# Altium schematic symbol library Xilinx Artix-7.SchLib: 78 symbols (part 14 of 23)
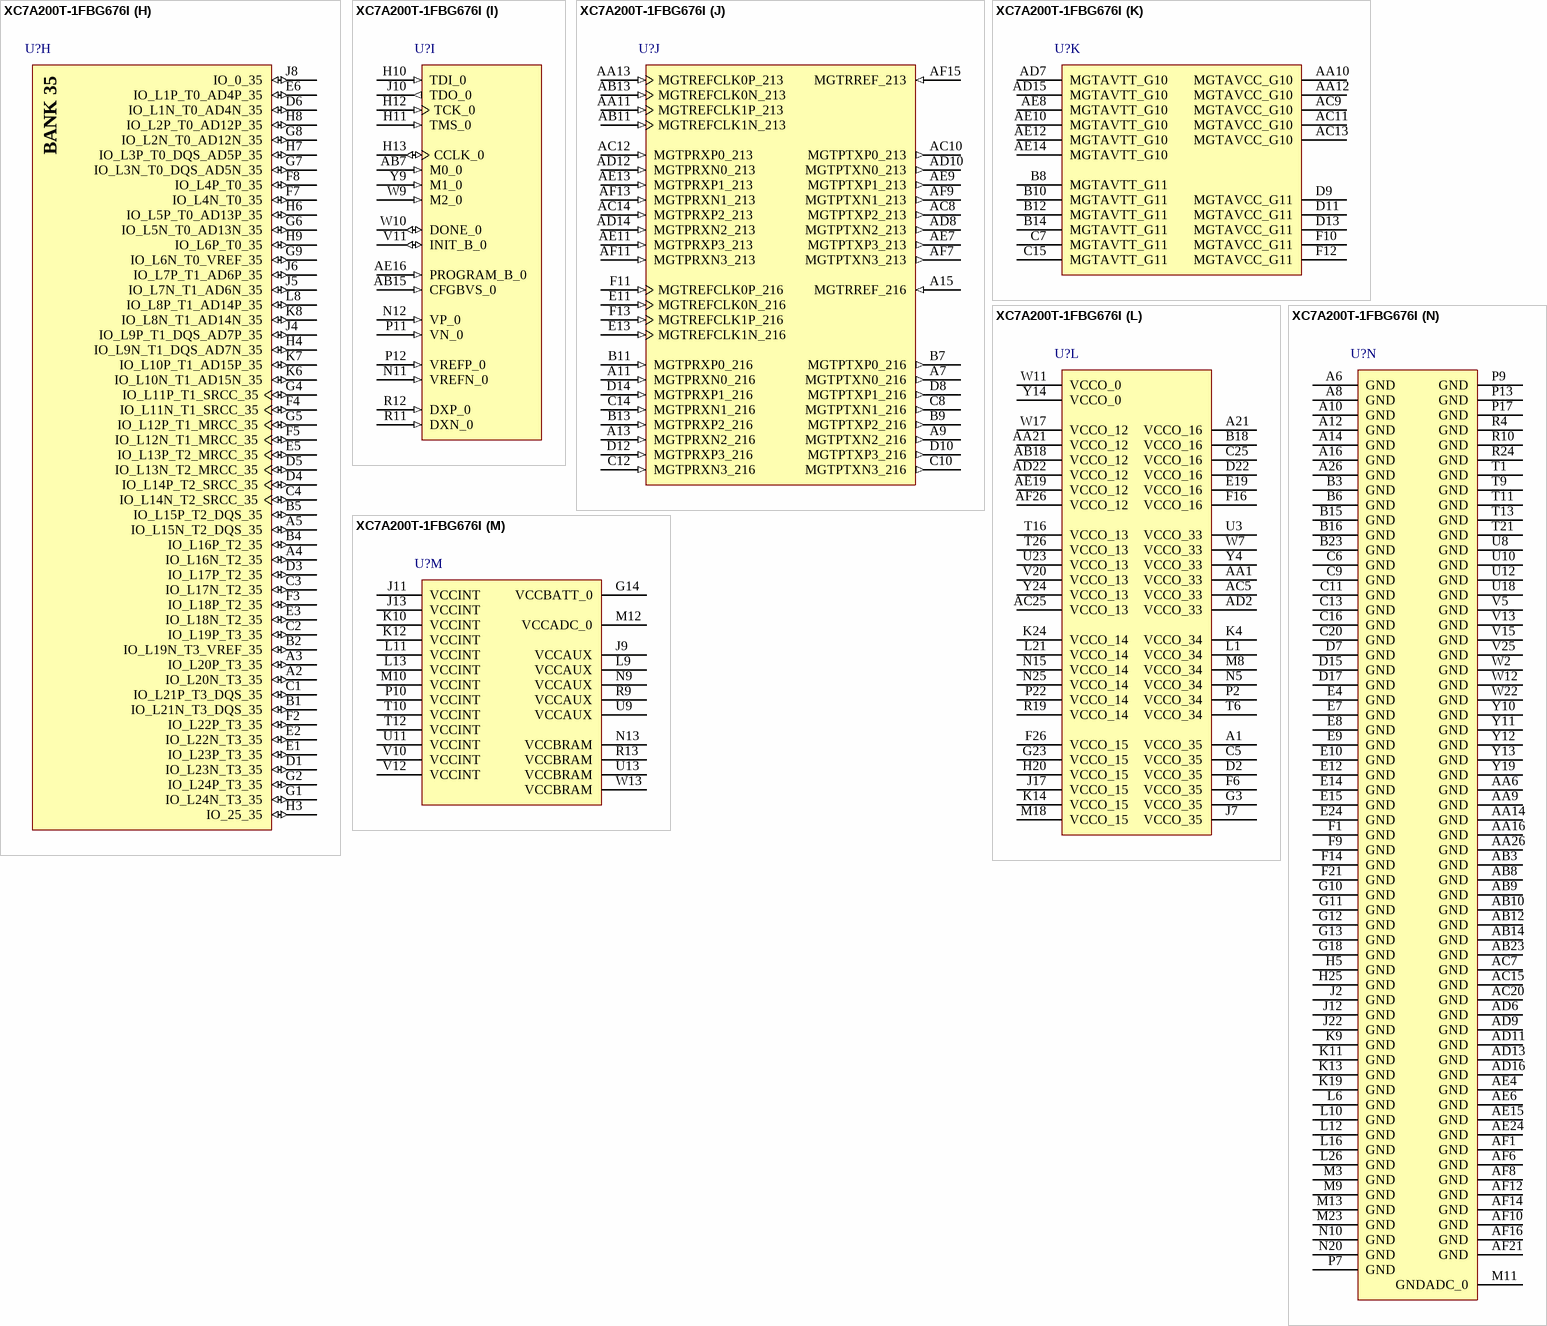
[diagram p140: symbol XC7A200T-1FBG676I]

## XC7A200T-1FBG676I
designator U?
Artix-7 FPGA, 400 User I/Os, 8 GTP, 676-Ball BGA, Speed Grade 1, Industrial Grade, Pb-Free; Generic Part Number: XC7A200T; Manufacturer: Xilinx; Block RAM Blocks (18Kb): 730; Block RAM Blocks (36Kb): 365; Block RAM Blocks (Max Kb): 13140; CLBs (Slices): 33650; Clock Mgmt Tiles (CMTs): 10; DSP48E1 Slices: 740; Logic Cells: 215360; Max User I/O: 500; Speed Grade: -1; NexusDeviceID: XC7A200T-1FBG676I; DatasheetVersion: v1.12; PackageVersion: Rev 1.8; PackageReference: FBG676; PackageDescription: Flip-Chip Lidless BGA, Body 27 x 27 mm, 1.0 mm Pitch; Supplier 1: Digi-Key; Supplier Part Number 1: XC7A200T-1FBG676I-ND; CLBs (Max Distributed RAM Kb): 2888; RoHS: Pb-Free; Mounting Technology: Surface Mount; Code_JEDEC: MS-034; PartNumber: XC7A200T-1FBG676I; ComponentLink1Description: Manufacturer URL; ComponentLink1URL: http://www.xilinx.com/; ComponentLink2Description: Datasheet; ComponentLink2URL: http://www.xilinx.com/support/documentation/data_sheets/ds180_7Series_Overview.pdf; ComponentLink3Description: Package Specification; ComponentLink3URL: http://www.xilinx.com/support/documentation/user_guides/ug475_7Series_Pkg_Pinout.pdf; ComponentLink4Description: DC and Switching Characteristics; ComponentLink4URL: http://www.xilinx.com/support/documentation/data_sheets/ds181_Artix_7_Data_Sheet.pdf; ComponentLink5Description: Package File; ComponentLink5URL: http://www.xilinx.com/support/packagefiles/a7packages/xc7a200tfbg676pkg.txt; ComponentLink6Description: Packaging and Pinout; ComponentLink6URL: http://www.xilinx.com/support/documentation/user_guides/ug475_7Series_Pkg_Pinout.pdf
footprint FBG676 (BGA, 676-Balls, Body 27x27mm, Pitch 1.0mm)
part A pins: AA15 IO_L23N_T3_12 (io), AA17 IO_L19P_T3_12 (io), AA18 IO_L17N_T2_12 (io), AA19 IO_L13P_T2_MRCC_12 (io), AA20 IO_L12P_T1_MRCC_12 (io), AB16 IO_L22P_T3_12 (io), AB17 IO_L19N_T3_VREF_12 (io), AB19 IO_L13N_T2_MRCC_12 (io), AB20 IO_L12N_T1_MRCC_12 (io), AB21 IO_L11P_T1_SRCC_12 (io), AB22 IO_0_12 (io), AC16 IO_L22N_T3_12 (io), AC17 IO_L20P_T3_12 (io), AC18 IO_L15P_T2_DQS_12 (io), AC19 IO_L14P_T2_SRCC_12 (io), AC21 IO_L11N_T1_SRCC_12 (io), AC22 IO_L2P_T0_12 (io), AC23 IO_L2N_T0_12 (io), AD17 IO_L20N_T3_12 (io), AD18 IO_L15N_T2_DQS_12 (io), AD19 IO_L14N_T2_SRCC_12 (io), AD20 IO_L10P_T1_12 (io), AD21 IO_L7P_T1_12 (io), AD23 IO_L6P_T0_12 (io), AD24 IO_L6N_T0_VREF_12 (io), AD25 IO_L4P_T0_12 (io), AD26 IO_L4N_T0_12 (io), AE17 IO_L18P_T2_12 (io), AE18 IO_L16P_T2_12 (io), AE20 IO_L10N_T1_12 (io), AE21 IO_L7N_T1_12 (io), AE22 IO_L9P_T1_DQS_12 (io), AE23 IO_L5P_T0_12 (io), AE25 IO_L1P_T0_12 (io), AE26 IO_L1N_T0_12 (io), AF17 IO_L18N_T2_12 (io), AF18 IO_L16N_T2_12 (io), AF19 IO_L8P_T1_12 (io), AF20 IO_L8N_T1_12 (io), AF22 IO_L9N_T1_DQS_12 (io), AF23 IO_L5N_T0_12 (io), AF24 IO_L3P_T0_DQS_12 (io), AF25 IO_L3N_T0_DQS_12 (io), W14 IO_L24P_T3_12 (io), W15 IO_L24N_T3_12 (io), W16 IO_25_12 (io), Y15 IO_L23P_T3_12 (io), Y16 IO_L21P_T3_DQS_12 (io), Y17 IO_L21N_T3_DQS_12 (io), Y18 IO_L17P_T2_12 (io)
part B pins: AA22 IO_L8P_T1_13 (io), AA23 IO_L8N_T1_13 (io), AA24 IO_L7P_T1_13 (io), AA25 IO_L5N_T0_13 (io), AB24 IO_L9P_T1_DQS_13 (io), AB25 IO_L7N_T1_13 (io), AB26 IO_L3P_T0_DQS_13 (io), AC24 IO_L9N_T1_DQS_13 (io), AC26 IO_L3N_T0_DQS_13 (io), T14 IO_L20P_T3_13 (io), T15 IO_L20N_T3_13 (io), T17 IO_L21P_T3_DQS_13 (io), T18 IO_L21N_T3_DQS_13 (io), T19 IO_L17P_T2_13 (io), T20 IO_L15P_T2_DQS_13 (io), U14 IO_L23P_T3_13 (io), U15 IO_L22P_T3_13 (io), U16 IO_L22N_T3_13 (io), U17 IO_25_13 (io), U19 IO_L17N_T2_13 (io), U20 IO_L15N_T2_DQS_13 (io), U21 IO_L13P_T2_MRCC_13 (io), U22 IO_L12P_T1_MRCC_13 (io), U24 IO_0_13 (io), U25 IO_L1P_T0_13 (io), U26 IO_L1N_T0_13 (io), V14 IO_L23N_T3_13 (io), V16 IO_L24P_T3_13 (io), V17 IO_L24N_T3_13 (io), V18 IO_L19P_T3_13 (io), V19 IO_L18P_T2_13 (io), V21 IO_L13N_T2_MRCC_13 (io), V22 IO_L12N_T1_MRCC_13 (io), V23 IO_L10P_T1_13 (io), V24 IO_L6P_T0_13 (io), V26 IO_L2P_T0_13 (io), W18 IO_L19N_T3_VREF_13 (io), W19 IO_L18N_T2_13 (io), W20 IO_L16P_T2_13 (io), W21 IO_L14P_T2_SRCC_13 (io), W23 IO_L10N_T1_13 (io), W24 IO_L6N_T0_VREF_13 (io), W25 IO_L4P_T0_13 (io), W26 IO_L2N_T0_13 (io), Y20 IO_L16N_T2_13 (io), Y21 IO_L14N_T2_SRCC_13 (io), Y22 IO_L11P_T1_SRCC_13 (io), Y23 IO_L11N_T1_SRCC_13 (io), Y25 IO_L5P_T0_13 (io), Y26 IO_L4N_T0_13 (io)
part C pins: K25 IO_L7P_T1_D09_14 (io), K26 IO_L7N_T1_D10_14 (io), L20 IO_L8N_T1_D12_14 (io), L22 IO_L11P_T1_SRCC_14 (io), L23 IO_L11N_T1_SRCC_14 (io), L24 IO_L9P_T1_DQS_14 (io), L25 IO_L9N_T1_DQS_D13_14 (io), M19 IO_0_14 (io), M20 IO_L8P_T1_D11_14 (io), M21 IO_L12P_T1_MRCC_14 (io), M22 IO_L12N_T1_MRCC_14 (io), M24 IO_L10P_T1_D14_14 (io), M25 IO_L10N_T1_D15_14 (io), M26 IO_L20N_T3_A07_D23_14 (io), N14 IO_L2N_T0_D03_14 (io), N16 IO_L4P_T0_D04_14 (io), N17 IO_L4N_T0_D05_14 (io), N18 IO_L6N_T0_D08_VREF_14 (io), N19 IO_L16N_T2_A15_D31_14 (io), N21 IO_L13P_T2_MRCC_14 (io), N22 IO_L13N_T2_MRCC_14 (io), N23 IO_L15P_T2_DQS_RDWR_B_14 (io), N24 IO_L15N_T2_DQS_DOUT_CSO_B_14 (io), N26 IO_L20P_T3_A08_D24_14 (io), P14 IO_L2P_T0_D02_14 (io), P15 IO_L3P_T0_DQS_PUDC_B_14 (io), P16 IO_L3N_T0_DQS_EMCCLK_14 (io), P18 IO_L6P_T0_FCS_B_14 (io), P19 IO_L16P_T2_CSI_B_14 (io), P20 IO_L14P_T2_SRCC_14 (io), P21 IO_L14N_T2_SRCC_14 (io), P23 IO_L17P_T2_A14_D30_14 (io), P24 IO_L17N_T2_A13_D29_14 (io), P25 IO_L19N_T3_A09_D25_VREF_14 (io), P26 IO_L22N_T3_A04_D20_14 (io), R14 IO_L1P_T0_D00_MOSI_14 (io), R15 IO_L1N_T0_D01_DIN_14 (io), R16 IO_L5P_T0_D06_14 (io), R17 IO_L5N_T0_D07_14 (io), R18 IO_25_14 (io), R20 IO_L18P_T2_A12_D28_14 (io), R21 IO_L18N_T2_A11_D27_14 (io), R22 IO_L23N_T3_A02_D18_14 (io), R23 IO_L24N_T3_A00_D16_14 (io), R25 IO_L19P_T3_A10_D26_14 (io), R26 IO_L22P_T3_A05_D21_14 (io), T22 IO_L23P_T3_A03_D19_14 (io), T23 IO_L24P_T3_A01_D17_14 (io), T24 IO_L21P_T3_DQS_14 (io), T25 IO_L21N_T3_DQS_A06_D22_14 (io)
part D pins: D25 IO_L20N_T3_A19_15 (io), D26 IO_L21N_T3_DQS_A18_15 (io), E23 IO_L17N_T2_A25_15 (io), E25 IO_L20P_T3_A20_15 (io), E26 IO_L21P_T3_DQS_15 (io), F22 IO_L15N_T2_DQS_ADV_B_15 (io), F23 IO_L17P_T2_A26_15 (io), F24 IO_L19N_T3_A21_VREF_15 (io), F25 IO_L23N_T3_FWE_B_15 (io), G20 IO_L11P_T1_SRCC_15 (io), G21 IO_L11N_T1_SRCC_15 (io), G22 IO_L15P_T2_DQS_15 (io), G24 IO_L19P_T3_A22_15 (io), G25 IO_L23P_T3_FOE_B_15 (io), G26 IO_L22N_T3_A16_15 (io), H18 IO_L10N_T1_AD11N_15 (io), H19 IO_L7N_T1_AD2N_15 (io), H21 IO_L13P_T2_MRCC_15 (io), H22 IO_L13N_T2_MRCC_15 (io), H23 IO_L14N_T2_SRCC_15 (io), H24 IO_L16N_T2_A27_15 (io), H26 IO_L22P_T3_A17_15 (io), J14 IO_L2P_T0_AD8P_15 (io), J15 IO_L2N_T0_AD8N_15 (io), J16 IO_L1N_T0_AD0N_15 (io), J18 IO_L10P_T1_AD11P_15 (io), J19 IO_L7P_T1_AD2P_15 (io), J20 IO_L9N_T1_DQS_AD3N_15 (io), J21 IO_L12N_T1_MRCC_15 (io), J23 IO_L14P_T2_SRCC_15 (io), J24 IO_L16P_T2_A28_15 (io), J25 IO_L24P_T3_RS1_15 (io), J26 IO_L24N_T3_RS0_15 (io), K15 IO_L1P_T0_AD0P_15 (io), K16 IO_L3P_T0_DQS_AD1P_15 (io), K17 IO_L3N_T0_DQS_AD1N_15 (io), K18 IO_0_15 (io), K20 IO_L9P_T1_DQS_AD3P_15 (io), K21 IO_L12P_T1_MRCC_15 (io), K22 IO_L18P_T2_A24_15 (io), K23 IO_L18N_T2_A23_15 (io), L14 IO_L4N_T0_15 (io), L15 IO_L5N_T0_AD9N_15 (io), L17 IO_L8P_T1_AD10P_15 (io), L18 IO_L8N_T1_AD10N_15 (io), L19 IO_25_15 (io), M14 IO_L4P_T0_15 (io), M15 IO_L5P_T0_AD9P_15 (io), M16 IO_L6P_T0_15 (io), M17 IO_L6N_T0_VREF_15 (io)
part E pins: A17 IO_L9P_T1_DQS_16 (io), A18 IO_L9N_T1_DQS_16 (io), A19 IO_L10N_T1_16 (io), A20 IO_L15N_T2_DQS_16 (io), A22 IO_L17N_T2_16 (io), A23 IO_L21P_T3_DQS_16 (io), A24 IO_L21N_T3_DQS_16 (io), A25 IO_L20N_T3_16 (io), B17 IO_L7N_T1_16 (io), B19 IO_L10P_T1_16 (io), B20 IO_L15P_T2_DQS_16 (io), B21 IO_L16N_T2_16 (io), B22 IO_L17P_T2_16 (io), B24 IO_L23N_T3_16 (io), B25 IO_L20P_T3_16 (io), B26 IO_L22N_T3_16 (io), C17 IO_L7P_T1_16 (io), C18 IO_L12N_T1_MRCC_16 (io), C19 IO_L13N_T2_MRCC_16 (io), C21 IO_L16P_T2_16 (io), C22 IO_L19P_T3_16 (io), C23 IO_L19N_T3_VREF_16 (io), C24 IO_L23P_T3_16 (io), C26 IO_L22P_T3_16 (io), D16 IO_L8N_T1_16 (io), D18 IO_L12P_T1_MRCC_16 (io), D19 IO_L13P_T2_MRCC_16 (io), D20 IO_L14N_T2_SRCC_16 (io), D21 IO_L18N_T2_16 (io), D23 IO_L24P_T3_16 (io), D24 IO_L24N_T3_16 (io), E16 IO_L8P_T1_16 (io), E17 IO_L11P_T1_SRCC_16 (io), E18 IO_L11N_T1_SRCC_16 (io), E20 IO_L14P_T2_SRCC_16 (io), E21 IO_L18P_T2_16 (io), E22 IO_25_16 (io), F15 IO_L4N_T0_16 (io), F17 IO_L2N_T0_16 (io), F18 IO_L3P_T0_DQS_16 (io), F19 IO_L3N_T0_DQS_16 (io), F20 IO_L5N_T0_16 (io), G15 IO_L4P_T0_16 (io), G16 IO_L6N_T0_VREF_16 (io), G17 IO_L2P_T0_16 (io), G19 IO_L5P_T0_16 (io), H14 IO_L1P_T0_16 (io), H15 IO_L1N_T0_16 (io), H16 IO_L6P_T0_16 (io), H17 IO_0_16 (io)
part F pins: AA2 IO_L12N_T1_MRCC_33 (io), AA3 IO_L12P_T1_MRCC_33 (io), AA4 IO_L13P_T2_MRCC_33 (io), AA5 IO_L22P_T3_33 (io), AA7 IO_L19N_T3_VREF_33 (io), AA8 IO_L23N_T3_33 (io), AB1 IO_L7P_T1_33 (io), AB2 IO_L11P_T1_SRCC_33 (io), AB4 IO_L13N_T2_MRCC_33 (io), AB5 IO_L22N_T3_33 (io), AB6 IO_L24P_T3_33 (io), AC1 IO_L7N_T1_33 (io), AC2 IO_L11N_T1_SRCC_33 (io), AC3 IO_L14P_T2_SRCC_33 (io), AC4 IO_L18P_T2_33 (io), AC6 IO_L24N_T3_33 (io), AD1 IO_L9P_T1_DQS_33 (io), AD3 IO_L14N_T2_SRCC_33 (io), AD4 IO_L18N_T2_33 (io), AD5 IO_L15P_T2_DQS_33 (io), AE1 IO_L9N_T1_DQS_33 (io), AE2 IO_L10P_T1_33 (io), AE3 IO_L16P_T2_33 (io), AE5 IO_L15N_T2_DQS_33 (io), AF2 IO_L10N_T1_33 (io), AF3 IO_L16N_T2_33 (io), AF4 IO_L17N_T2_33 (io), AF5 IO_L17P_T2_33 (io), U7 IO_L6P_T0_33 (io), V1 IO_L1P_T0_33 (io), V2 IO_L3N_T0_DQS_33 (io), V3 IO_L3P_T0_DQS_33 (io), V4 IO_0_33 (io), V6 IO_L4P_T0_33 (io), V7 IO_L6N_T0_VREF_33 (io), V8 IO_L21P_T3_DQS_33 (io), V9 IO_25_33 (io), W1 IO_L1N_T0_33 (io), W3 IO_L5P_T0_33 (io), W4 IO_L2N_T0_33 (io), W5 IO_L2P_T0_33 (io), W6 IO_L4N_T0_33 (io), W8 IO_L21N_T3_DQS_33 (io), Y1 IO_L8N_T1_33 (io), Y2 IO_L8P_T1_33 (io), Y3 IO_L5N_T0_33 (io), Y5 IO_L20N_T3_33 (io), Y6 IO_L20P_T3_33 (io), Y7 IO_L19P_T3_33 (io), Y8 IO_L23P_T3_33 (io)
part G pins: H1 IO_L10N_T1_34 (io), H2 IO_L10P_T1_34 (io), J1 IO_L7N_T1_34 (io), J3 IO_L1N_T0_34 (io), K1 IO_L7P_T1_34 (io), K2 IO_L8N_T1_34 (io), K3 IO_L1P_T0_34 (io), K5 IO_L4N_T0_34 (io), L2 IO_L11N_T1_SRCC_34 (io), L3 IO_L8P_T1_34 (io), L4 IO_L3N_T0_DQS_34 (io), L5 IO_L4P_T0_34 (io), L7 IO_L2N_T0_34 (io), M1 IO_L9N_T1_DQS_34 (io), M2 IO_L11P_T1_SRCC_34 (io), M4 IO_L3P_T0_DQS_34 (io), M5 IO_L6N_T0_VREF_34 (io), M6 IO_L6P_T0_34 (io), M7 IO_L2P_T0_34 (io), N1 IO_L9P_T1_DQS_34 (io), N2 IO_L12N_T1_MRCC_34 (io), N3 IO_L12P_T1_MRCC_34 (io), N4 IO_L14N_T2_SRCC_34 (io), N6 IO_L5N_T0_34 (io), N7 IO_L5P_T0_34 (io), N8 IO_0_34 (io), P1 IO_L15N_T2_DQS_34 (io), P3 IO_L13N_T2_MRCC_34 (io), P4 IO_L14P_T2_SRCC_34 (io), P5 IO_L19N_T3_VREF_34 (io), P6 IO_L19P_T3_34 (io), P8 IO_L22N_T3_34 (io), R1 IO_L15P_T2_DQS_34 (io), R2 IO_L17N_T2_34 (io), R3 IO_L13P_T2_MRCC_34 (io), R5 IO_L20N_T3_34 (io), R6 IO_L23N_T3_34 (io), R7 IO_L23P_T3_34 (io), R8 IO_L22P_T3_34 (io), T2 IO_L17P_T2_34 (io), T3 IO_L16N_T2_34 (io), T4 IO_L16P_T2_34 (io), T5 IO_L20P_T3_34 (io), T7 IO_L24N_T3_34 (io), T8 IO_L24P_T3_34 (io), U1 IO_L18N_T2_34 (io), U2 IO_L18P_T2_34 (io), U4 IO_25_34 (io), U5 IO_L21N_T3_DQS_34 (io), U6 IO_L21P_T3_DQS_34 (io)
part H pins: A2 IO_L20N_T3_35 (io), A3 IO_L20P_T3_35 (io), A4 IO_L16N_T2_35 (io), A5 IO_L15N_T2_DQS_35 (io), B1 IO_L21N_T3_DQS_35 (io), B2 IO_L19N_T3_VREF_35 (io), B4 IO_L16P_T2_35 (io), B5 IO_L15P_T2_DQS_35 (io), C1 IO_L21P_T3_DQS_35 (io), C2 IO_L19P_T3_35 (io), C3 IO_L17N_T2_35 (io), C4 IO_L14N_T2_SRCC_35 (io), D1 IO_L23N_T3_35 (io), D3 IO_L17P_T2_35 (io), D4 IO_L14P_T2_SRCC_35 (io), D5 IO_L13N_T2_MRCC_35 (io), D6 IO_L1N_T0_AD4N_35 (io), E1 IO_L23P_T3_35 (io), E2 IO_L22N_T3_35 (io), E3 IO_L18N_T2_35 (io), E5 IO_L13P_T2_MRCC_35 (io), E6 IO_L1P_T0_AD4P_35 (io), F2 IO_L22P_T3_35 (io), F3 IO_L18P_T2_35 (io), F4 IO_L11N_T1_SRCC_35 (io), F5 IO_L12N_T1_MRCC_35 (io), F7 IO_L4N_T0_35 (io), F8 IO_L4P_T0_35 (io), G1 IO_L24N_T3_35 (io), G2 IO_L24P_T3_35 (io), G4 IO_L11P_T1_SRCC_35 (io), G5 IO_L12P_T1_MRCC_35 (io), G6 IO_L5N_T0_AD13N_35 (io), G7 IO_L3N_T0_DQS_AD5N_35 (io), G8 IO_L2N_T0_AD12N_35 (io), G9 IO_L6N_T0_VREF_35 (io), H3 IO_25_35 (io), H4 IO_L9N_T1_DQS_AD7N_35 (io), H6 IO_L5P_T0_AD13P_35 (io), H7 IO_L3P_T0_DQS_AD5P_35 (io), H8 IO_L2P_T0_AD12P_35 (io), H9 IO_L6P_T0_35 (io), J4 IO_L9P_T1_DQS_AD7P_35 (io), J5 IO_L7N_T1_AD6N_35 (io), J6 IO_L7P_T1_AD6P_35 (io), J8 IO_0_35 (io), K6 IO_L10N_T1_AD15N_35 (io), K7 IO_L10P_T1_AD15P_35 (io), K8 IO_L8N_T1_AD14N_35 (io), L8 IO_L8P_T1_AD14P_35 (io)
part I pins: AB7 M0_0 (in), AB15 CFGBVS_0 (in), AE16 PROGRAM_B_0 (in), H10 TDI_0 (in), H11 TMS_0 (in), H12 TCK_0 (in), H13 CCLK_0 (io), J10 TDO_0 (out), N11 VREFN_0 (in), N12 VP_0 (in), P11 VN_0 (in), P12 VREFP_0 (in), R11 DXN_0 (in), R12 DXP_0 (in), V11 INIT_B_0 (io), W9 M2_0 (in), W10 DONE_0 (io), Y9 M1_0 (in)
part J pins: A7 MGTPTXN0_216 (out), A9 MGTPTXN2_216 (out), A11 MGTPRXN0_216 (in), A13 MGTPRXN2_216 (in), A15 MGTRREF_216 (in), AA11 MGTREFCLK1P_213 (in), AA13 MGTREFCLK0P_213 (in), AB11 MGTREFCLK1N_213 (in), AB13 MGTREFCLK0N_213 (in), AC8 MGTPTXP2_213 (out), AC10 MGTPTXP0_213 (out), AC12 MGTPRXP0_213 (in), AC14 MGTPRXP2_213 (in), AD8 MGTPTXN2_213 (out), AD10 MGTPTXN0_213 (out), AD12 MGTPRXN0_213 (in), AD14 MGTPRXN2_213 (in), AE7 MGTPTXP3_213 (out), AE9 MGTPTXP1_213 (out), AE11 MGTPRXP3_213 (in), AE13 MGTPRXP1_213 (in), AF7 MGTPTXN3_213 (out), AF9 MGTPTXN1_213 (out), AF11 MGTPRXN3_213 (in), AF13 MGTPRXN1_213 (in), AF15 MGTRREF_213 (in), B7 MGTPTXP0_216 (out), B9 MGTPTXP2_216 (out), B11 MGTPRXP0_216 (in), B13 MGTPRXP2_216 (in), C8 MGTPTXN1_216 (out), C10 MGTPTXN3_216 (out), C12 MGTPRXN3_216 (in), C14 MGTPRXN1_216 (in), D8 MGTPTXP1_216 (out), D10 MGTPTXP3_216 (out), D12 MGTPRXP3_216 (in), D14 MGTPRXP1_216 (in), E11 MGTREFCLK0N_216 (in), E13 MGTREFCLK1N_216 (in), F11 MGTREFCLK0P_216 (in), F13 MGTREFCLK1P_216 (in)
part K pins: AA10 MGTAVCC_G10 (power), AA12 MGTAVCC_G10 (power), AC9 MGTAVCC_G10 (power), AC11 MGTAVCC_G10 (power), AC13 MGTAVCC_G10 (power), AD7 MGTAVTT_G10 (power), AD15 MGTAVTT_G10 (power), AE8 MGTAVTT_G10 (power), AE10 MGTAVTT_G10 (power), AE12 MGTAVTT_G10 (power), AE14 MGTAVTT_G10 (power), B8 MGTAVTT_G11 (power), B10 MGTAVTT_G11 (power), B12 MGTAVTT_G11 (power), B14 MGTAVTT_G11 (power), C7 MGTAVTT_G11 (power), C15 MGTAVTT_G11 (power), D9 MGTAVCC_G11 (power), D11 MGTAVCC_G11 (power), D13 MGTAVCC_G11 (power), F10 MGTAVCC_G11 (power), F12 MGTAVCC_G11 (power)
part L pins: A1 VCCO_35 (power), A21 VCCO_16 (power), AA1 VCCO_33 (power), AA21 VCCO_12 (power), AB18 VCCO_12 (power), AC5 VCCO_33 (power), AC25 VCCO_13 (power), AD2 VCCO_33 (power), AD22 VCCO_12 (power), AE19 VCCO_12 (power), AF26 VCCO_12 (power), B18 VCCO_16 (power), C5 VCCO_35 (power), C25 VCCO_16 (power), D2 VCCO_35 (power), D22 VCCO_16 (power), E19 VCCO_16 (power), F6 VCCO_35 (power), F16 VCCO_16 (power), F26 VCCO_15 (power), G3 VCCO_35 (power), G23 VCCO_15 (power), H20 VCCO_15 (power), J7 VCCO_35 (power), J17 VCCO_15 (power), K4 VCCO_34 (power), K14 VCCO_15 (power), K24 VCCO_14 (power), L1 VCCO_34 (power), L21 VCCO_14 (power), M8 VCCO_34 (power), M18 VCCO_15 (power), N5 VCCO_34 (power), N15 VCCO_14 (power), N25 VCCO_14 (power), P2 VCCO_34 (power), P22 VCCO_14 (power), R19 VCCO_14 (power), T6 VCCO_34 (power), T16 VCCO_13 (power), T26 VCCO_13 (power), U3 VCCO_33 (power), U23 VCCO_13 (power), V20 VCCO_13 (power), W7 VCCO_33 (power), W11 VCCO_0 (power), W17 VCCO_12 (power), Y4 VCCO_33 (power), Y14 VCCO_0 (power), Y24 VCCO_13 (power)
part M pins: G14 VCCBATT_0 (power), J9 VCCAUX (power), J11 VCCINT (power), J13 VCCINT (power), K10 VCCINT (power), K12 VCCINT (power), L9 VCCAUX (power), L11 VCCINT (power), L13 VCCINT (power), M10 VCCINT (power), M12 VCCADC_0 (power), N9 VCCAUX (power), N13 VCCBRAM (power), P10 VCCINT (power), R9 VCCAUX (power), R13 VCCBRAM (power), T10 VCCINT (power), T12 VCCINT (power), U9 VCCAUX (power), U11 VCCINT (power), U13 VCCBRAM (power), V10 VCCINT (power), V12 VCCINT (power), W13 VCCBRAM (power)
part N pins: A6 GND (power), A8 GND (power), A10 GND (power), A12 GND (power), A14 GND (power), A16 GND (power), A26 GND (power), AA6 GND (power), AA9 GND (power), AA14 GND (power), AA16 GND (power), AA26 GND (power), AB3 GND (power), AB8 GND (power), AB9 GND (power), AB10 GND (power), AB12 GND (power), AB14 GND (power), AB23 GND (power), AC7 GND (power), AC15 GND (power), AC20 GND (power), AD6 GND (power), AD9 GND (power), AD11 GND (power), AD13 GND (power), AD16 GND (power), AE4 GND (power), AE6 GND (power), AE15 GND (power), AE24 GND (power), AF1 GND (power), AF6 GND (power), AF8 GND (power), AF10 GND (power), AF12 GND (power), AF14 GND (power), AF16 GND (power), AF21 GND (power), B3 GND (power), B6 GND (power), B15 GND (power), B16 GND (power), B23 GND (power), C6 GND (power), C9 GND (power), C11 GND (power), C13 GND (power), C16 GND (power), C20 GND (power), D7 GND (power), D15 GND (power), D17 GND (power), E4 GND (power), E7 GND (power), E8 GND (power), E9 GND (power), E10 GND (power), E12 GND (power), E14 GND (power), E15 GND (power), E24 GND (power), F1 GND (power), F9 GND (power), F14 GND (power), F21 GND (power), G10 GND (power), G11 GND (power), G12 GND (power), G13 GND (power), G18 GND (power), H5 GND (power), H25 GND (power), J2 GND (power), J12 GND (power), J22 GND (power), K9 GND (power), K11 GND (power), K13 GND (power), K19 GND (power), L6 GND (power), L10 GND (power), L12 GND (power), L16 GND (power), L26 GND (power), M3 GND (power), M9 GND (power), M11 GNDADC_0 (power), M13 GND (power), M23 GND (power), N10 GND (power), N20 GND (power), P7 GND (power), P9 GND (power), P13 GND (power), P17 GND (power), R4 GND (power), R10 GND (power), R24 GND (power), T1 GND (power), T9 GND (power), T11 GND (power), T13 GND (power), T21 GND (power), U8 GND (power), U10 GND (power), U12 GND (power), U18 GND (power), V5 GND (power), V13 GND (power), V15 GND (power), V25 GND (power), W2 GND (power), W12 GND (power), W22 GND (power), Y10 GND (power), Y11 GND (power), Y12 GND (power), Y13 GND (power), Y19 GND (power)
part A text: BANK 12
part B text: BANK 13
part C text: BANK 14
part D text: BANK 15
part E text: BANK 16
part F text: BANK 33
part G text: BANK 34
part H text: BANK 35

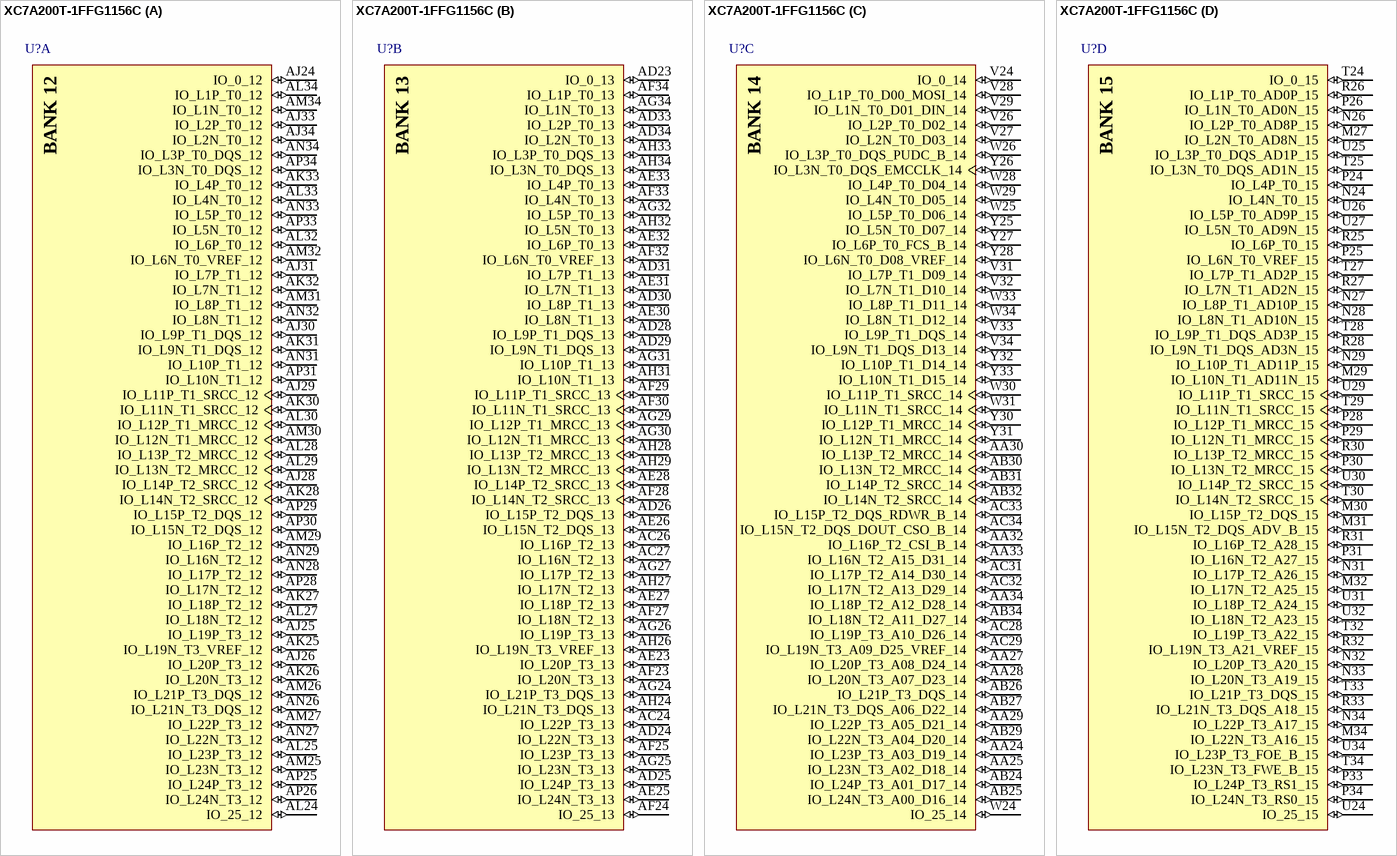
[diagram p75: symbol XC7A200T-1FFG1156C]

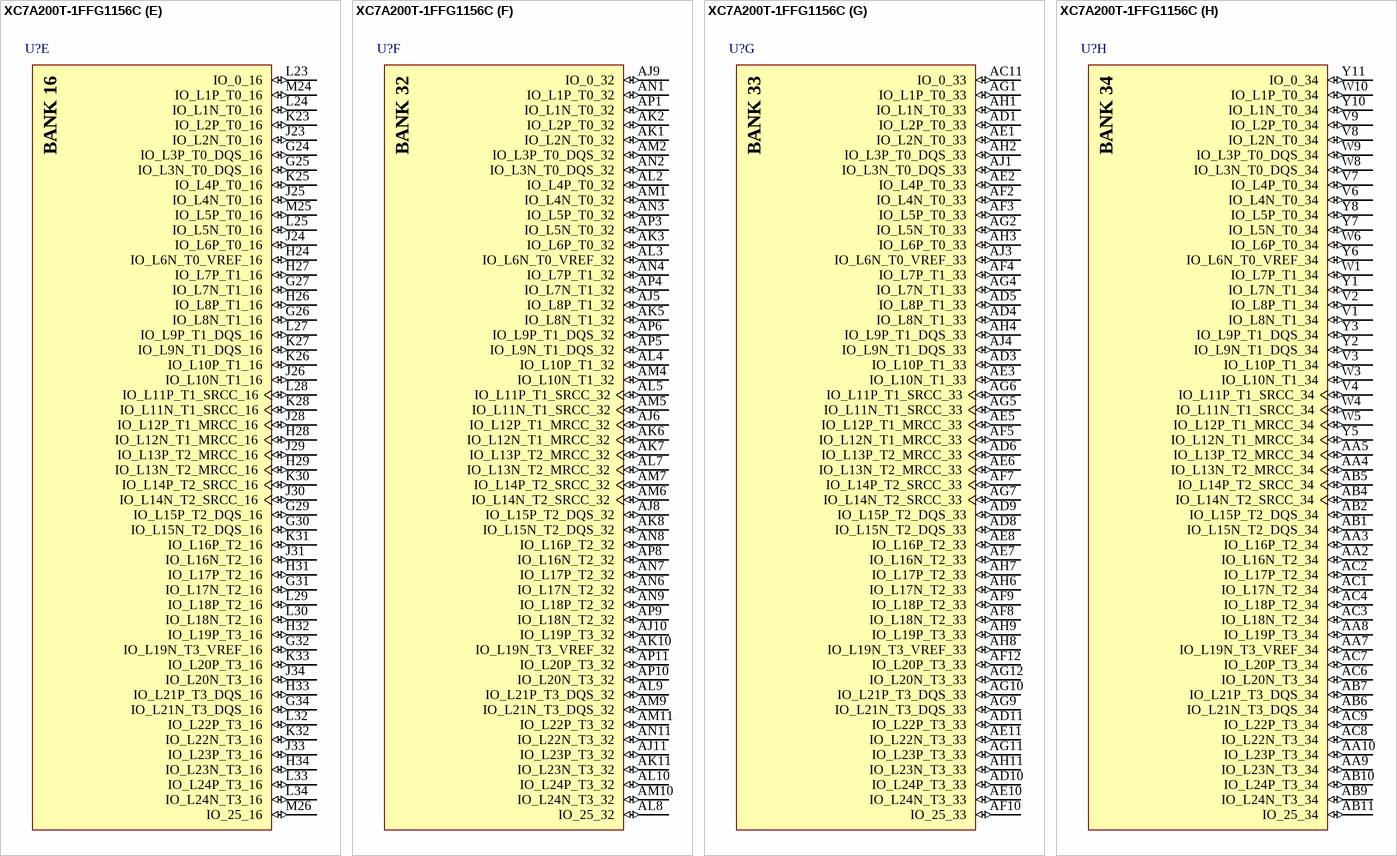
[diagram p76: symbol XC7A200T-1FFG1156C]

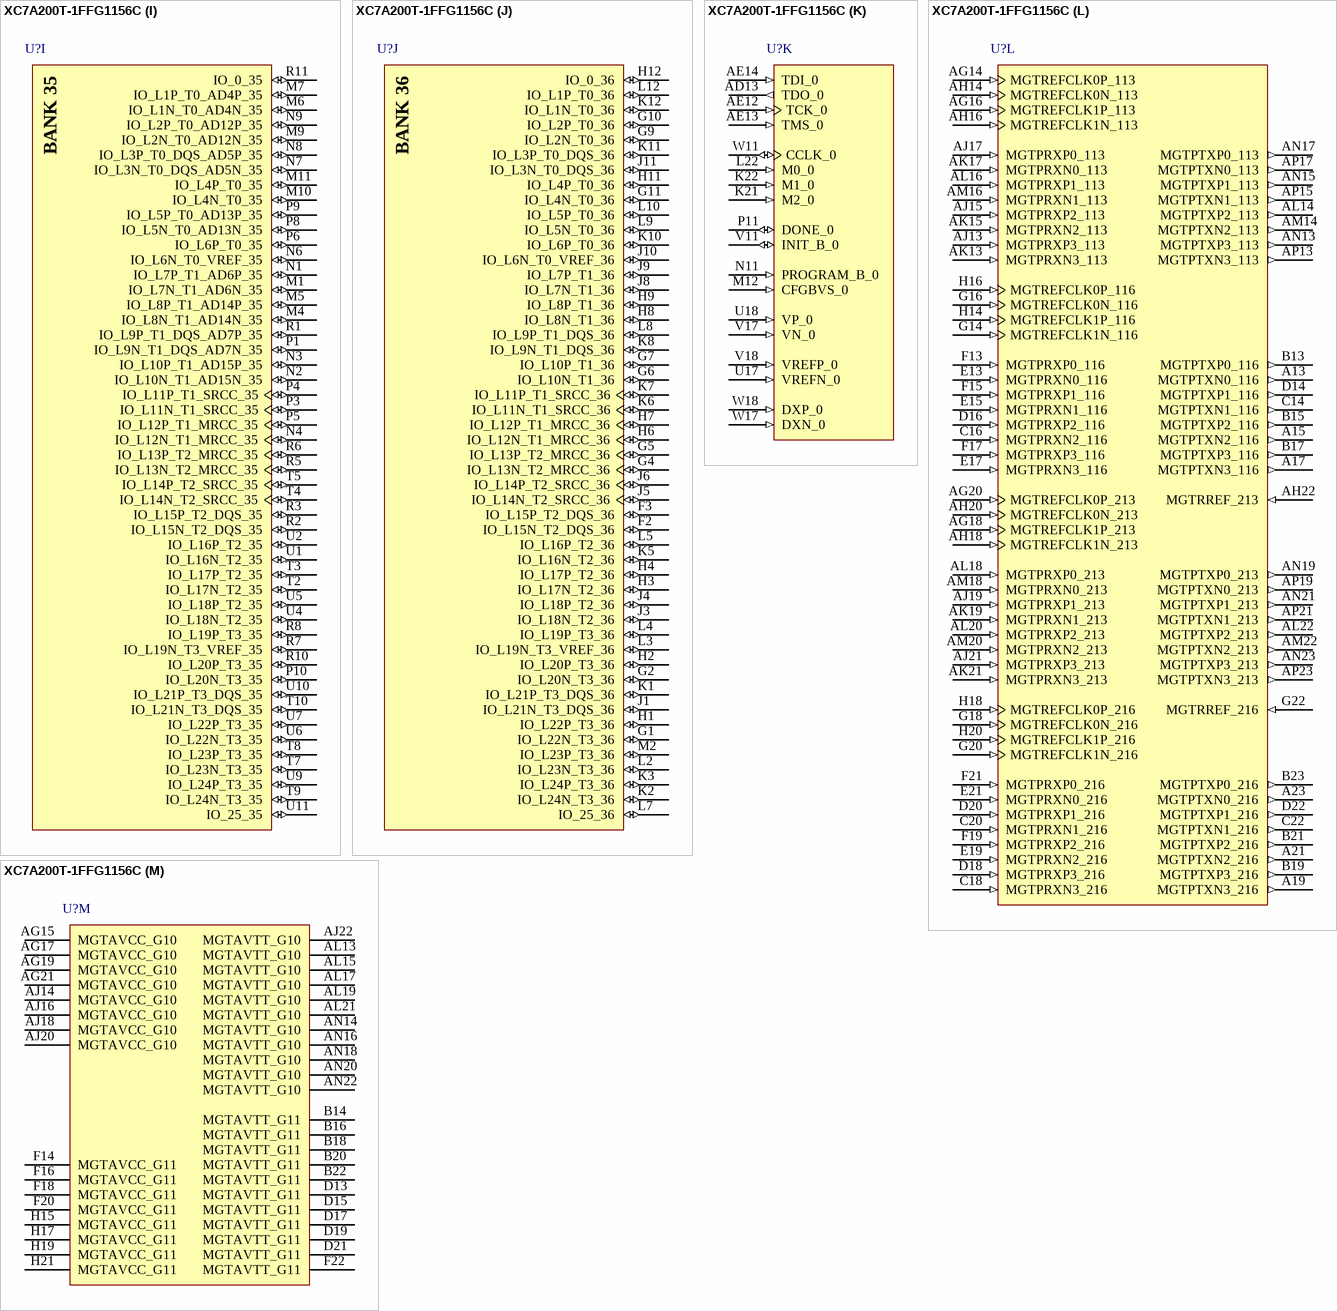
[diagram p77: symbol XC7A200T-1FFG1156C]

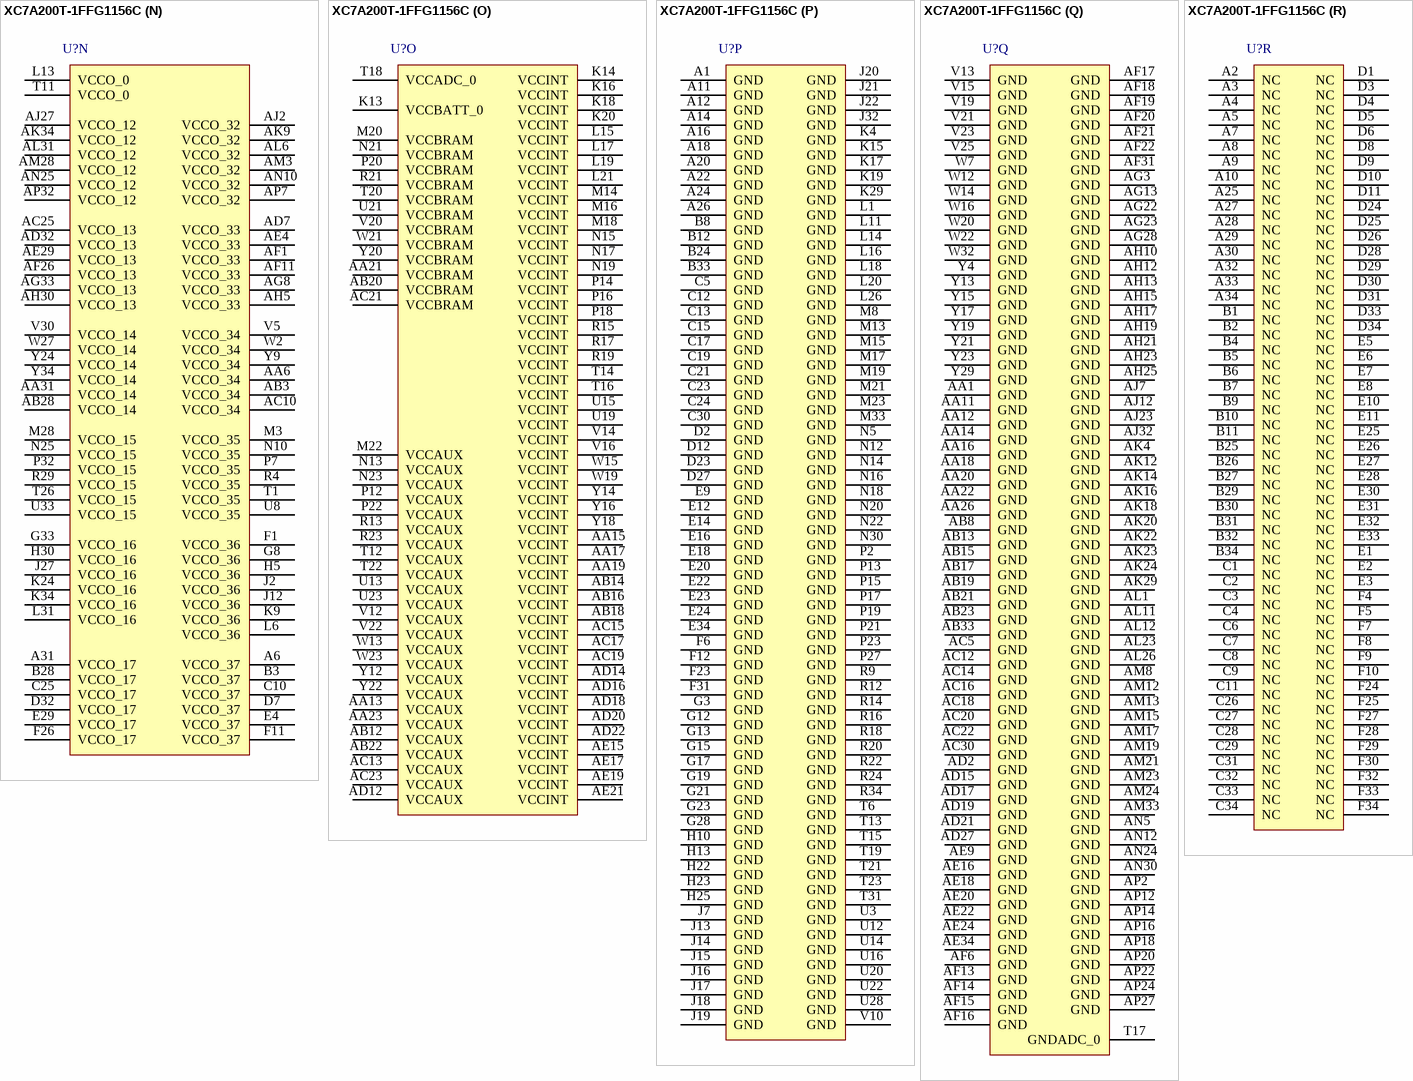
[diagram p78: symbol XC7A200T-1FFG1156C]

## XC7A200T-1FFG1156C
designator U?
Artix-7 FPGA, 500 User I/Os, 16 GTP, 1156-Ball BGA, Speed Grade 1, Commercial Grade, Pb-Free; Generic Part Number: XC7A200T; Manufacturer: Xilinx; Block RAM Blocks (18Kb): 730; Block RAM Blocks (36Kb): 365; Block RAM Blocks (Max Kb): 13140; CLBs (Slices): 33650; Clock Mgmt Tiles (CMTs): 10; DSP48E1 Slices: 740; Logic Cells: 215360; Max User I/O: 500; Speed Grade: -1; NexusDeviceID: XC7A200T-1FFG1156C; DatasheetVersion: v1.12; PackageVersion: Rev 1.8; PackageReference: FFG1156; PackageDescription: Flip-Chip BGA, Body 35 x 35 mm, 1.0 mm Pitch; Supplier 1: Digi-Key; Supplier Part Number 1: 122-1868-ND; CLBs (Max Distributed RAM Kb): 2888; RoHS: Pb-Free; Mounting Technology: Surface Mount; Code_JEDEC: MS-034-AAR-1; PartNumber: XC7A200T-1FFG1156C; ComponentLink1Description: Manufacturer URL; ComponentLink1URL: http://www.xilinx.com/; ComponentLink2Description: Datasheet; ComponentLink2URL: http://www.xilinx.com/support/documentation/data_sheets/ds180_7Series_Overview.pdf; ComponentLink3Description: Package Specification; ComponentLink3URL: http://www.xilinx.com/support/documentation/user_guides/ug475_7Series_Pkg_Pinout.pdf; ComponentLink4Description: DC and Switching Characteristics; ComponentLink4URL: http://www.xilinx.com/support/documentation/data_sheets/ds181_Artix_7_Data_Sheet.pdf; ComponentLink5Description: Package File; ComponentLink5URL: http://www.xilinx.com/support/packagefiles/a7packages/xc7a200tfbg676pkg.txt; ComponentLink6Description: Packaging and Pinout; ComponentLink6URL: http://www.xilinx.com/support/documentation/user_guides/ug475_7Series_Pkg_Pinout.pdf
footprint FFG1156 (BGA, 1156-Balls, Body 35x35mm, Pitch 1.0mm)
part A pins: AJ24 IO_0_12 (io), AJ25 IO_L19P_T3_12 (io), AJ26 IO_L20P_T3_12 (io), AJ28 IO_L14P_T2_SRCC_12 (io), AJ29 IO_L11P_T1_SRCC_12 (io), AJ30 IO_L9P_T1_DQS_12 (io), AJ31 IO_L7P_T1_12 (io), AJ33 IO_L2P_T0_12 (io), AJ34 IO_L2N_T0_12 (io), AK25 IO_L19N_T3_VREF_12 (io), AK26 IO_L20N_T3_12 (io), AK27 IO_L18P_T2_12 (io), AK28 IO_L14N_T2_SRCC_12 (io), AK30 IO_L11N_T1_SRCC_12 (io), AK31 IO_L9N_T1_DQS_12 (io), AK32 IO_L7N_T1_12 (io), AK33 IO_L4P_T0_12 (io), AL24 IO_25_12 (io), AL25 IO_L23P_T3_12 (io), AL27 IO_L18N_T2_12 (io), AL28 IO_L13P_T2_MRCC_12 (io), AL29 IO_L13N_T2_MRCC_12 (io), AL30 IO_L12P_T1_MRCC_12 (io), AL32 IO_L6P_T0_12 (io), AL33 IO_L4N_T0_12 (io), AL34 IO_L1P_T0_12 (io), AM25 IO_L23N_T3_12 (io), AM26 IO_L21P_T3_DQS_12 (io), AM27 IO_L22P_T3_12 (io), AM29 IO_L16P_T2_12 (io), AM30 IO_L12N_T1_MRCC_12 (io), AM31 IO_L8P_T1_12 (io), AM32 IO_L6N_T0_VREF_12 (io), AM34 IO_L1N_T0_12 (io), AN26 IO_L21N_T3_DQS_12 (io), AN27 IO_L22N_T3_12 (io), AN28 IO_L17P_T2_12 (io), AN29 IO_L16N_T2_12 (io), AN31 IO_L10P_T1_12 (io), AN32 IO_L8N_T1_12 (io), AN33 IO_L5P_T0_12 (io), AN34 IO_L3P_T0_DQS_12 (io), AP25 IO_L24P_T3_12 (io), AP26 IO_L24N_T3_12 (io), AP28 IO_L17N_T2_12 (io), AP29 IO_L15P_T2_DQS_12 (io), AP30 IO_L15N_T2_DQS_12 (io), AP31 IO_L10N_T1_12 (io), AP33 IO_L5N_T0_12 (io), AP34 IO_L3N_T0_DQS_12 (io)
part B pins: AC24 IO_L22P_T3_13 (io), AC26 IO_L16P_T2_13 (io), AC27 IO_L16N_T2_13 (io), AD23 IO_0_13 (io), AD24 IO_L22N_T3_13 (io), AD25 IO_L24P_T3_13 (io), AD26 IO_L15P_T2_DQS_13 (io), AD28 IO_L9P_T1_DQS_13 (io), AD29 IO_L9N_T1_DQS_13 (io), AD30 IO_L8P_T1_13 (io), AD31 IO_L7P_T1_13 (io), AD33 IO_L2P_T0_13 (io), AD34 IO_L2N_T0_13 (io), AE23 IO_L20P_T3_13 (io), AE25 IO_L24N_T3_13 (io), AE26 IO_L15N_T2_DQS_13 (io), AE27 IO_L18P_T2_13 (io), AE28 IO_L14P_T2_SRCC_13 (io), AE30 IO_L8N_T1_13 (io), AE31 IO_L7N_T1_13 (io), AE32 IO_L6P_T0_13 (io), AE33 IO_L4P_T0_13 (io), AF23 IO_L20N_T3_13 (io), AF24 IO_25_13 (io), AF25 IO_L23P_T3_13 (io), AF27 IO_L18N_T2_13 (io), AF28 IO_L14N_T2_SRCC_13 (io), AF29 IO_L11P_T1_SRCC_13 (io), AF30 IO_L11N_T1_SRCC_13 (io), AF32 IO_L6N_T0_VREF_13 (io), AF33 IO_L4N_T0_13 (io), AF34 IO_L1P_T0_13 (io), AG24 IO_L21P_T3_DQS_13 (io), AG25 IO_L23N_T3_13 (io), AG26 IO_L19P_T3_13 (io), AG27 IO_L17P_T2_13 (io), AG29 IO_L12P_T1_MRCC_13 (io), AG30 IO_L12N_T1_MRCC_13 (io), AG31 IO_L10P_T1_13 (io), AG32 IO_L5P_T0_13 (io), AG34 IO_L1N_T0_13 (io), AH24 IO_L21N_T3_DQS_13 (io), AH26 IO_L19N_T3_VREF_13 (io), AH27 IO_L17N_T2_13 (io), AH28 IO_L13P_T2_MRCC_13 (io), AH29 IO_L13N_T2_MRCC_13 (io), AH31 IO_L10N_T1_13 (io), AH32 IO_L5N_T0_13 (io), AH33 IO_L3P_T0_DQS_13 (io), AH34 IO_L3N_T0_DQS_13 (io)
part C pins: AA24 IO_L23P_T3_A03_D19_14 (io), AA25 IO_L23N_T3_A02_D18_14 (io), AA27 IO_L20P_T3_A08_D24_14 (io), AA28 IO_L20N_T3_A07_D23_14 (io), AA29 IO_L22P_T3_A05_D21_14 (io), AA30 IO_L13P_T2_MRCC_14 (io), AA32 IO_L16P_T2_CSI_B_14 (io), AA33 IO_L16N_T2_A15_D31_14 (io), AA34 IO_L18P_T2_A12_D28_14 (io), AB24 IO_L24P_T3_A01_D17_14 (io), AB25 IO_L24N_T3_A00_D16_14 (io), AB26 IO_L21P_T3_DQS_14 (io), AB27 IO_L21N_T3_DQS_A06_D22_14 (io), AB29 IO_L22N_T3_A04_D20_14 (io), AB30 IO_L13N_T2_MRCC_14 (io), AB31 IO_L14P_T2_SRCC_14 (io), AB32 IO_L14N_T2_SRCC_14 (io), AB34 IO_L18N_T2_A11_D27_14 (io), AC28 IO_L19P_T3_A10_D26_14 (io), AC29 IO_L19N_T3_A09_D25_VREF_14 (io), AC31 IO_L17P_T2_A14_D30_14 (io), AC32 IO_L17N_T2_A13_D29_14 (io), AC33 IO_L15P_T2_DQS_RDWR_B_14 (io), AC34 IO_L15N_T2_DQS_DOUT_CSO_B_14 (io), V24 IO_0_14 (io), V26 IO_L2P_T0_D02_14 (io), V27 IO_L2N_T0_D03_14 (io), V28 IO_L1P_T0_D00_MOSI_14 (io), V29 IO_L1N_T0_D01_DIN_14 (io), V31 IO_L7P_T1_D09_14 (io), V32 IO_L7N_T1_D10_14 (io), V33 IO_L9P_T1_DQS_14 (io), V34 IO_L9N_T1_DQS_D13_14 (io), W24 IO_25_14 (io), W25 IO_L5P_T0_D06_14 (io), W26 IO_L3P_T0_DQS_PUDC_B_14 (io), W28 IO_L4P_T0_D04_14 (io), W29 IO_L4N_T0_D05_14 (io), W30 IO_L11P_T1_SRCC_14 (io), W31 IO_L11N_T1_SRCC_14 (io), W33 IO_L8P_T1_D11_14 (io), W34 IO_L8N_T1_D12_14 (io), Y25 IO_L5N_T0_D07_14 (io), Y26 IO_L3N_T0_DQS_EMCCLK_14 (io), Y27 IO_L6P_T0_FCS_B_14 (io), Y28 IO_L6N_T0_D08_VREF_14 (io), Y30 IO_L12P_T1_MRCC_14 (io), Y31 IO_L12N_T1_MRCC_14 (io), Y32 IO_L10P_T1_D14_14 (io), Y33 IO_L10N_T1_D15_14 (io)
part D pins: M27 IO_L2N_T0_AD8N_15 (io), M29 IO_L10N_T1_AD11N_15 (io), M30 IO_L15P_T2_DQS_15 (io), M31 IO_L15N_T2_DQS_ADV_B_15 (io), M32 IO_L17N_T2_A25_15 (io), M34 IO_L22N_T3_A16_15 (io), N24 IO_L4N_T0_15 (io), N26 IO_L2P_T0_AD8P_15 (io), N27 IO_L8P_T1_AD10P_15 (io), N28 IO_L8N_T1_AD10N_15 (io), N29 IO_L10P_T1_AD11P_15 (io), N31 IO_L17P_T2_A26_15 (io), N32 IO_L20P_T3_A20_15 (io), N33 IO_L20N_T3_A19_15 (io), N34 IO_L22P_T3_A17_15 (io), P24 IO_L4P_T0_15 (io), P25 IO_L6N_T0_VREF_15 (io), P26 IO_L1N_T0_AD0N_15 (io), P28 IO_L12P_T1_MRCC_15 (io), P29 IO_L12N_T1_MRCC_15 (io), P30 IO_L13N_T2_MRCC_15 (io), P31 IO_L16N_T2_A27_15 (io), P33 IO_L24P_T3_RS1_15 (io), P34 IO_L24N_T3_RS0_15 (io), R25 IO_L6P_T0_15 (io), R26 IO_L1P_T0_AD0P_15 (io), R27 IO_L7N_T1_AD2N_15 (io), R28 IO_L9N_T1_DQS_AD3N_15 (io), R30 IO_L13P_T2_MRCC_15 (io), R31 IO_L16P_T2_A28_15 (io), R32 IO_L19N_T3_A21_VREF_15 (io), R33 IO_L21N_T3_DQS_A18_15 (io), T24 IO_0_15 (io), T25 IO_L3N_T0_DQS_AD1N_15 (io), T27 IO_L7P_T1_AD2P_15 (io), T28 IO_L9P_T1_DQS_AD3P_15 (io), T29 IO_L11N_T1_SRCC_15 (io), T30 IO_L14N_T2_SRCC_15 (io), T32 IO_L19P_T3_A22_15 (io), T33 IO_L21P_T3_DQS_15 (io), T34 IO_L23N_T3_FWE_B_15 (io), U24 IO_25_15 (io), U25 IO_L3P_T0_DQS_AD1P_15 (io), U26 IO_L5P_T0_AD9P_15 (io), U27 IO_L5N_T0_AD9N_15 (io), U29 IO_L11P_T1_SRCC_15 (io), U30 IO_L14P_T2_SRCC_15 (io), U31 IO_L18P_T2_A24_15 (io), U32 IO_L18N_T2_A23_15 (io), U34 IO_L23P_T3_FOE_B_15 (io)
part E pins: G24 IO_L3P_T0_DQS_16 (io), G25 IO_L3N_T0_DQS_16 (io), G26 IO_L8N_T1_16 (io), G27 IO_L7N_T1_16 (io), G29 IO_L15P_T2_DQS_16 (io), G30 IO_L15N_T2_DQS_16 (io), G31 IO_L17N_T2_16 (io), G32 IO_L19N_T3_VREF_16 (io), G34 IO_L21N_T3_DQS_16 (io), H24 IO_L6N_T0_VREF_16 (io), H26 IO_L8P_T1_16 (io), H27 IO_L7P_T1_16 (io), H28 IO_L12N_T1_MRCC_16 (io), H29 IO_L13N_T2_MRCC_16 (io), H31 IO_L17P_T2_16 (io), H32 IO_L19P_T3_16 (io), H33 IO_L21P_T3_DQS_16 (io), H34 IO_L23N_T3_16 (io), J23 IO_L2N_T0_16 (io), J24 IO_L6P_T0_16 (io), J25 IO_L4N_T0_16 (io), J26 IO_L10N_T1_16 (io), J28 IO_L12P_T1_MRCC_16 (io), J29 IO_L13P_T2_MRCC_16 (io), J30 IO_L14N_T2_SRCC_16 (io), J31 IO_L16N_T2_16 (io), J33 IO_L23P_T3_16 (io), J34 IO_L20N_T3_16 (io), K23 IO_L2P_T0_16 (io), K25 IO_L4P_T0_16 (io), K26 IO_L10P_T1_16 (io), K27 IO_L9N_T1_DQS_16 (io), K28 IO_L11N_T1_SRCC_16 (io), K30 IO_L14P_T2_SRCC_16 (io), K31 IO_L16P_T2_16 (io), K32 IO_L22N_T3_16 (io), K33 IO_L20P_T3_16 (io), L23 IO_0_16 (io), L24 IO_L1N_T0_16 (io), L25 IO_L5N_T0_16 (io), L27 IO_L9P_T1_DQS_16 (io), L28 IO_L11P_T1_SRCC_16 (io), L29 IO_L18P_T2_16 (io), L30 IO_L18N_T2_16 (io), L32 IO_L22P_T3_16 (io), L33 IO_L24P_T3_16 (io), L34 IO_L24N_T3_16 (io), M24 IO_L1P_T0_16 (io), M25 IO_L5P_T0_16 (io), M26 IO_25_16 (io)
part F pins: AJ5 IO_L8P_T1_32 (io), AJ6 IO_L12P_T1_MRCC_32 (io), AJ8 IO_L15P_T2_DQS_32 (io), AJ9 IO_0_32 (io), AJ10 IO_L19P_T3_32 (io), AJ11 IO_L23P_T3_32 (io), AK1 IO_L2N_T0_32 (io), AK2 IO_L2P_T0_32 (io), AK3 IO_L6P_T0_32 (io), AK5 IO_L8N_T1_32 (io), AK6 IO_L12N_T1_MRCC_32 (io), AK7 IO_L13P_T2_MRCC_32 (io), AK8 IO_L15N_T2_DQS_32 (io), AK10 IO_L19N_T3_VREF_32 (io), AK11 IO_L23N_T3_32 (io), AL2 IO_L4P_T0_32 (io), AL3 IO_L6N_T0_VREF_32 (io), AL4 IO_L10P_T1_32 (io), AL5 IO_L11P_T1_SRCC_32 (io), AL7 IO_L13N_T2_MRCC_32 (io), AL8 IO_25_32 (io), AL9 IO_L21P_T3_DQS_32 (io), AL10 IO_L24P_T3_32 (io), AM1 IO_L4N_T0_32 (io), AM2 IO_L3P_T0_DQS_32 (io), AM4 IO_L10N_T1_32 (io), AM5 IO_L11N_T1_SRCC_32 (io), AM6 IO_L14N_T2_SRCC_32 (io), AM7 IO_L14P_T2_SRCC_32 (io), AM9 IO_L21N_T3_DQS_32 (io), AM10 IO_L24N_T3_32 (io), AM11 IO_L22P_T3_32 (io), AN1 IO_L1P_T0_32 (io), AN2 IO_L3N_T0_DQS_32 (io), AN3 IO_L5P_T0_32 (io), AN4 IO_L7P_T1_32 (io), AN6 IO_L17N_T2_32 (io), AN7 IO_L17P_T2_32 (io), AN8 IO_L16P_T2_32 (io), AN9 IO_L18P_T2_32 (io), AN11 IO_L22N_T3_32 (io), AP1 IO_L1N_T0_32 (io), AP3 IO_L5N_T0_32 (io), AP4 IO_L7N_T1_32 (io), AP5 IO_L9N_T1_DQS_32 (io), AP6 IO_L9P_T1_DQS_32 (io), AP8 IO_L16N_T2_32 (io), AP9 IO_L18N_T2_32 (io), AP10 IO_L20N_T3_32 (io), AP11 IO_L20P_T3_32 (io)
part G pins: AC11 IO_0_33 (io), AD1 IO_L2P_T0_33 (io), AD3 IO_L10P_T1_33 (io), AD4 IO_L8N_T1_33 (io), AD5 IO_L8P_T1_33 (io), AD6 IO_L13P_T2_MRCC_33 (io), AD8 IO_L15N_T2_DQS_33 (io), AD9 IO_L15P_T2_DQS_33 (io), AD10 IO_L24P_T3_33 (io), AD11 IO_L22P_T3_33 (io), AE1 IO_L2N_T0_33 (io), AE2 IO_L4P_T0_33 (io), AE3 IO_L10N_T1_33 (io), AE5 IO_L12P_T1_MRCC_33 (io), AE6 IO_L13N_T2_MRCC_33 (io), AE7 IO_L16N_T2_33 (io), AE8 IO_L16P_T2_33 (io), AE10 IO_L24N_T3_33 (io), AE11 IO_L22N_T3_33 (io), AF2 IO_L4N_T0_33 (io), AF3 IO_L5P_T0_33 (io), AF4 IO_L7P_T1_33 (io), AF5 IO_L12N_T1_MRCC_33 (io), AF7 IO_L14P_T2_SRCC_33 (io), AF8 IO_L18N_T2_33 (io), AF9 IO_L18P_T2_33 (io), AF10 IO_25_33 (io), AF12 IO_L20P_T3_33 (io), AG1 IO_L1P_T0_33 (io), AG2 IO_L5N_T0_33 (io), AG4 IO_L7N_T1_33 (io), AG5 IO_L11N_T1_SRCC_33 (io), AG6 IO_L11P_T1_SRCC_33 (io), AG7 IO_L14N_T2_SRCC_33 (io), AG9 IO_L21N_T3_DQS_33 (io), AG10 IO_L21P_T3_DQS_33 (io), AG11 IO_L23P_T3_33 (io), AG12 IO_L20N_T3_33 (io), AH1 IO_L1N_T0_33 (io), AH2 IO_L3P_T0_DQS_33 (io), AH3 IO_L6P_T0_33 (io), AH4 IO_L9P_T1_DQS_33 (io), AH6 IO_L17N_T2_33 (io), AH7 IO_L17P_T2_33 (io), AH8 IO_L19N_T3_VREF_33 (io), AH9 IO_L19P_T3_33 (io), AH11 IO_L23N_T3_33 (io), AJ1 IO_L3N_T0_DQS_33 (io), AJ3 IO_L6N_T0_VREF_33 (io), AJ4 IO_L9N_T1_DQS_33 (io)
part H pins: AA2 IO_L16N_T2_34 (io), AA3 IO_L16P_T2_34 (io), AA4 IO_L13N_T2_MRCC_34 (io), AA5 IO_L13P_T2_MRCC_34 (io), AA7 IO_L19N_T3_VREF_34 (io), AA8 IO_L19P_T3_34 (io), AA9 IO_L23N_T3_34 (io), AA10 IO_L23P_T3_34 (io), AB1 IO_L15N_T2_DQS_34 (io), AB2 IO_L15P_T2_DQS_34 (io), AB4 IO_L14N_T2_SRCC_34 (io), AB5 IO_L14P_T2_SRCC_34 (io), AB6 IO_L21N_T3_DQS_34 (io), AB7 IO_L21P_T3_DQS_34 (io), AB9 IO_L24N_T3_34 (io), AB10 IO_L24P_T3_34 (io), AB11 IO_25_34 (io), AC1 IO_L17N_T2_34 (io), AC2 IO_L17P_T2_34 (io), AC3 IO_L18N_T2_34 (io), AC4 IO_L18P_T2_34 (io), AC6 IO_L20N_T3_34 (io), AC7 IO_L20P_T3_34 (io), AC8 IO_L22N_T3_34 (io), AC9 IO_L22P_T3_34 (io), V1 IO_L8N_T1_34 (io), V2 IO_L8P_T1_34 (io), V3 IO_L10P_T1_34 (io), V4 IO_L11P_T1_SRCC_34 (io), V6 IO_L4N_T0_34 (io), V7 IO_L4P_T0_34 (io), V8 IO_L2N_T0_34 (io), V9 IO_L2P_T0_34 (io), W1 IO_L7P_T1_34 (io), W3 IO_L10N_T1_34 (io), W4 IO_L11N_T1_SRCC_34 (io), W5 IO_L12P_T1_MRCC_34 (io), W6 IO_L6P_T0_34 (io), W8 IO_L3N_T0_DQS_34 (io), W9 IO_L3P_T0_DQS_34 (io), W10 IO_L1P_T0_34 (io), Y1 IO_L7N_T1_34 (io), Y2 IO_L9N_T1_DQS_34 (io), Y3 IO_L9P_T1_DQS_34 (io), Y5 IO_L12N_T1_MRCC_34 (io), Y6 IO_L6N_T0_VREF_34 (io), Y7 IO_L5N_T0_34 (io), Y8 IO_L5P_T0_34 (io), Y10 IO_L1N_T0_34 (io), Y11 IO_0_34 (io)
part I pins: M1 IO_L7N_T1_AD6N_35 (io), M4 IO_L8N_T1_AD14N_35 (io), M5 IO_L8P_T1_AD14P_35 (io), M6 IO_L1N_T0_AD4N_35 (io), M7 IO_L1P_T0_AD4P_35 (io), M9 IO_L2N_T0_AD12N_35 (io), M10 IO_L4N_T0_35 (io), M11 IO_L4P_T0_35 (io), N1 IO_L7P_T1_AD6P_35 (io), N2 IO_L10N_T1_AD15N_35 (io), N3 IO_L10P_T1_AD15P_35 (io), N4 IO_L12N_T1_MRCC_35 (io), N6 IO_L6N_T0_VREF_35 (io), N7 IO_L3N_T0_DQS_AD5N_35 (io), N8 IO_L3P_T0_DQS_AD5P_35 (io), N9 IO_L2P_T0_AD12P_35 (io), P1 IO_L9N_T1_DQS_AD7N_35 (io), P3 IO_L11N_T1_SRCC_35 (io), P4 IO_L11P_T1_SRCC_35 (io), P5 IO_L12P_T1_MRCC_35 (io), P6 IO_L6P_T0_35 (io), P8 IO_L5N_T0_AD13N_35 (io), P9 IO_L5P_T0_AD13P_35 (io), P10 IO_L20N_T3_35 (io), R1 IO_L9P_T1_DQS_AD7P_35 (io), R2 IO_L15N_T2_DQS_35 (io), R3 IO_L15P_T2_DQS_35 (io), R5 IO_L13N_T2_MRCC_35 (io), R6 IO_L13P_T2_MRCC_35 (io), R7 IO_L19N_T3_VREF_35 (io), R8 IO_L19P_T3_35 (io), R10 IO_L20P_T3_35 (io), R11 IO_0_35 (io), T2 IO_L17N_T2_35 (io), T3 IO_L17P_T2_35 (io), T4 IO_L14N_T2_SRCC_35 (io), T5 IO_L14P_T2_SRCC_35 (io), T7 IO_L23N_T3_35 (io), T8 IO_L23P_T3_35 (io), T9 IO_L24N_T3_35 (io), T10 IO_L21N_T3_DQS_35 (io), U1 IO_L16N_T2_35 (io), U2 IO_L16P_T2_35 (io), U4 IO_L18N_T2_35 (io), U5 IO_L18P_T2_35 (io), U6 IO_L22N_T3_35 (io), U7 IO_L22P_T3_35 (io), U9 IO_L24P_T3_35 (io), U10 IO_L21P_T3_DQS_35 (io), U11 IO_25_35 (io)
part J pins: F2 IO_L15N_T2_DQS_36 (io), F3 IO_L15P_T2_DQS_36 (io), G1 IO_L22N_T3_36 (io), G2 IO_L20N_T3_36 (io), G4 IO_L13N_T2_MRCC_36 (io), G5 IO_L13P_T2_MRCC_36 (io), G6 IO_L10N_T1_36 (io), G7 IO_L10P_T1_36 (io), G9 IO_L2N_T0_36 (io), G10 IO_L2P_T0_36 (io), G11 IO_L4N_T0_36 (io), H1 IO_L22P_T3_36 (io), H2 IO_L20P_T3_36 (io), H3 IO_L17N_T2_36 (io), H4 IO_L17P_T2_36 (io), H6 IO_L12N_T1_MRCC_36 (io), H7 IO_L12P_T1_MRCC_36 (io), H8 IO_L8N_T1_36 (io), H9 IO_L8P_T1_36 (io), H11 IO_L4P_T0_36 (io), H12 IO_0_36 (io), J1 IO_L21N_T3_DQS_36 (io), J3 IO_L18N_T2_36 (io), J4 IO_L18P_T2_36 (io), J5 IO_L14N_T2_SRCC_36 (io), J6 IO_L14P_T2_SRCC_36 (io), J8 IO_L7N_T1_36 (io), J9 IO_L7P_T1_36 (io), J10 IO_L6N_T0_VREF_36 (io), J11 IO_L3N_T0_DQS_36 (io), K1 IO_L21P_T3_DQS_36 (io), K2 IO_L24N_T3_36 (io), K3 IO_L24P_T3_36 (io), K5 IO_L16N_T2_36 (io), K6 IO_L11N_T1_SRCC_36 (io), K7 IO_L11P_T1_SRCC_36 (io), K8 IO_L9N_T1_DQS_36 (io), K10 IO_L6P_T0_36 (io), K11 IO_L3P_T0_DQS_36 (io), K12 IO_L1N_T0_36 (io), L2 IO_L23N_T3_36 (io), L3 IO_L19N_T3_VREF_36 (io), L4 IO_L19P_T3_36 (io), L5 IO_L16P_T2_36 (io), L7 IO_25_36 (io), L8 IO_L9P_T1_DQS_36 (io), L9 IO_L5N_T0_36 (io), L10 IO_L5P_T0_36 (io), L12 IO_L1P_T0_36 (io), M2 IO_L23P_T3_36 (io)
part K pins: AD13 TDO_0 (out), AE12 TCK_0 (in), AE13 TMS_0 (in), AE14 TDI_0 (in), K21 M2_0 (in), K22 M1_0 (in), L22 M0_0 (in), M12 CFGBVS_0 (in), N11 PROGRAM_B_0 (in), P11 DONE_0 (io), U17 VREFN_0 (in), U18 VP_0 (in), V11 INIT_B_0 (io), V17 VN_0 (in), V18 VREFP_0 (in), W11 CCLK_0 (io), W17 DXN_0 (in), W18 DXP_0 (in)
part L pins: A13 MGTPTXN0_116 (out), A15 MGTPTXN2_116 (out), A17 MGTPTXN3_116 (out), A19 MGTPTXN3_216 (out), A21 MGTPTXN2_216 (out), A23 MGTPTXN0_216 (out), AG14 MGTREFCLK0P_113 (in), AG16 MGTREFCLK1P_113 (in), AG18 MGTREFCLK1P_213 (in), AG20 MGTREFCLK0P_213 (in), AH14 MGTREFCLK0N_113 (in), AH16 MGTREFCLK1N_113 (in), AH18 MGTREFCLK1N_213 (in), AH20 MGTREFCLK0N_213 (in), AH22 MGTRREF_213 (in), AJ13 MGTPRXP3_113 (in), AJ15 MGTPRXP2_113 (in), AJ17 MGTPRXP0_113 (in), AJ19 MGTPRXP1_213 (in), AJ21 MGTPRXP3_213 (in), AK13 MGTPRXN3_113 (in), AK15 MGTPRXN2_113 (in), AK17 MGTPRXN0_113 (in), AK19 MGTPRXN1_213 (in), AK21 MGTPRXN3_213 (in), AL14 MGTPTXP2_113 (out), AL16 MGTPRXP1_113 (in), AL18 MGTPRXP0_213 (in), AL20 MGTPRXP2_213 (in), AL22 MGTPTXP2_213 (out), AM14 MGTPTXN2_113 (out), AM16 MGTPRXN1_113 (in), AM18 MGTPRXN0_213 (in), AM20 MGTPRXN2_213 (in), AM22 MGTPTXN2_213 (out), AN13 MGTPTXP3_113 (out), AN15 MGTPTXP1_113 (out), AN17 MGTPTXP0_113 (out), AN19 MGTPTXP0_213 (out), AN21 MGTPTXP1_213 (out), AN23 MGTPTXP3_213 (out), AP13 MGTPTXN3_113 (out), AP15 MGTPTXN1_113 (out), AP17 MGTPTXN0_113 (out), AP19 MGTPTXN0_213 (out), AP21 MGTPTXN1_213 (out), AP23 MGTPTXN3_213 (out), B13 MGTPTXP0_116 (out), B15 MGTPTXP2_116 (out), B17 MGTPTXP3_116 (out), B19 MGTPTXP3_216 (out), B21 MGTPTXP2_216 (out), B23 MGTPTXP0_216 (out), C14 MGTPTXN1_116 (out), C16 MGTPRXN2_116 (in), C18 MGTPRXN3_216 (in), C20 MGTPRXN1_216 (in), C22 MGTPTXN1_216 (out), D14 MGTPTXP1_116 (out), D16 MGTPRXP2_116 (in), D18 MGTPRXP3_216 (in), D20 MGTPRXP1_216 (in), D22 MGTPTXP1_216 (out), E13 MGTPRXN0_116 (in), E15 MGTPRXN1_116 (in), E17 MGTPRXN3_116 (in), E19 MGTPRXN2_216 (in), E21 MGTPRXN0_216 (in), F13 MGTPRXP0_116 (in), F15 MGTPRXP1_116 (in), F17 MGTPRXP3_116 (in), F19 MGTPRXP2_216 (in), F21 MGTPRXP0_216 (in), G14 MGTREFCLK1N_116 (in), G16 MGTREFCLK0N_116 (in), G18 MGTREFCLK0N_216 (in), G20 MGTREFCLK1N_216 (in), G22 MGTRREF_216 (in), H14 MGTREFCLK1P_116 (in), H16 MGTREFCLK0P_116 (in), H18 MGTREFCLK0P_216 (in), H20 MGTREFCLK1P_216 (in)
part M pins: AG15 MGTAVCC_G10 (power), AG17 MGTAVCC_G10 (power), AG19 MGTAVCC_G10 (power), AG21 MGTAVCC_G10 (power), AJ14 MGTAVCC_G10 (power), AJ16 MGTAVCC_G10 (power), AJ18 MGTAVCC_G10 (power), AJ20 MGTAVCC_G10 (power), AJ22 MGTAVTT_G10 (power), AL13 MGTAVTT_G10 (power), AL15 MGTAVTT_G10 (power), AL17 MGTAVTT_G10 (power), AL19 MGTAVTT_G10 (power), AL21 MGTAVTT_G10 (power), AN14 MGTAVTT_G10 (power), AN16 MGTAVTT_G10 (power), AN18 MGTAVTT_G10 (power), AN20 MGTAVTT_G10 (power), AN22 MGTAVTT_G10 (power), B14 MGTAVTT_G11 (power), B16 MGTAVTT_G11 (power), B18 MGTAVTT_G11 (power), B20 MGTAVTT_G11 (power), B22 MGTAVTT_G11 (power), D13 MGTAVTT_G11 (power), D15 MGTAVTT_G11 (power), D17 MGTAVTT_G11 (power), D19 MGTAVTT_G11 (power), D21 MGTAVTT_G11 (power), F14 MGTAVCC_G11 (power), F16 MGTAVCC_G11 (power), F18 MGTAVCC_G11 (power), F20 MGTAVCC_G11 (power), F22 MGTAVTT_G11 (power), H15 MGTAVCC_G11 (power), H17 MGTAVCC_G11 (power), H19 MGTAVCC_G11 (power), H21 MGTAVCC_G11 (power)
part N pins: A6 VCCO_37 (power), A31 VCCO_17 (power), AA6 VCCO_34 (power), AA31 VCCO_14 (power), AB3 VCCO_34 (power), AB28 VCCO_14 (power), AC10 VCCO_34 (power), AC25 VCCO_13 (power), AD7 VCCO_33 (power), AD32 VCCO_13 (power), AE4 VCCO_33 (power), AE29 VCCO_13 (power), AF1 VCCO_33 (power), AF11 VCCO_33 (power), AF26 VCCO_13 (power), AG8 VCCO_33 (power), AG33 VCCO_13 (power), AH5 VCCO_33 (power), AH30 VCCO_13 (power), AJ2 VCCO_32 (power), AJ27 VCCO_12 (power), AK9 VCCO_32 (power), AK34 VCCO_12 (power), AL6 VCCO_32 (power), AL31 VCCO_12 (power), AM3 VCCO_32 (power), AM28 VCCO_12 (power), AN10 VCCO_32 (power), AN25 VCCO_12 (power), AP7 VCCO_32 (power), AP32 VCCO_12 (power), B3 VCCO_37 (power), B28 VCCO_17 (power), C10 VCCO_37 (power), C25 VCCO_17 (power), D7 VCCO_37 (power), D32 VCCO_17 (power), E4 VCCO_37 (power), E29 VCCO_17 (power), F1 VCCO_36 (power), F11 VCCO_37 (power), F26 VCCO_17 (power), G8 VCCO_36 (power), G33 VCCO_16 (power), H5 VCCO_36 (power), H30 VCCO_16 (power), J2 VCCO_36 (power), J12 VCCO_36 (power), J27 VCCO_16 (power), K9 VCCO_36 (power), K24 VCCO_16 (power), K34 VCCO_16 (power), L6 VCCO_36 (power), L13 VCCO_0 (power), L31 VCCO_16 (power), M3 VCCO_35 (power), M28 VCCO_15 (power), N10 VCCO_35 (power), N25 VCCO_15 (power), P7 VCCO_35 (power), P32 VCCO_15 (power), R4 VCCO_35 (power), R29 VCCO_15 (power), T1 VCCO_35 (power), T11 VCCO_0 (power), T26 VCCO_15 (power), U8 VCCO_35 (power), U33 VCCO_15 (power), V5 VCCO_34 (power), V30 VCCO_14 (power), W2 VCCO_34 (power), W27 VCCO_14 (power), Y9 VCCO_34 (power), Y24 VCCO_14 (power), Y34 VCCO_14 (power)
part O pins: AA13 VCCAUX (power), AA15 VCCINT (power), AA17 VCCINT (power), AA19 VCCINT (power), AA21 VCCBRAM (power), AA23 VCCAUX (power), AB12 VCCAUX (power), AB14 VCCINT (power), AB16 VCCINT (power), AB18 VCCINT (power), AB20 VCCBRAM (power), AB22 VCCAUX (power), AC13 VCCAUX (power), AC15 VCCINT (power), AC17 VCCINT (power), AC19 VCCINT (power), AC21 VCCBRAM (power), AC23 VCCAUX (power), AD12 VCCAUX (power), AD14 VCCINT (power), AD16 VCCINT (power), AD18 VCCINT (power), AD20 VCCINT (power), AD22 VCCINT (power), AE15 VCCINT (power), AE17 VCCINT (power), AE19 VCCINT (power), AE21 VCCINT (power), K13 VCCBATT_0 (power), K14 VCCINT (power), K16 VCCINT (power), K18 VCCINT (power), K20 VCCINT (power), L15 VCCINT (power), L17 VCCINT (power), L19 VCCINT (power), L21 VCCINT (power), M14 VCCINT (power), M16 VCCINT (power), M18 VCCINT (power), M20 VCCBRAM (power), M22 VCCAUX (power), N13 VCCAUX (power), N15 VCCINT (power), N17 VCCINT (power), N19 VCCINT (power), N21 VCCBRAM (power), N23 VCCAUX (power), P12 VCCAUX (power), P14 VCCINT (power), P16 VCCINT (power), P18 VCCINT (power), P20 VCCBRAM (power), P22 VCCAUX (power), R13 VCCAUX (power), R15 VCCINT (power), R17 VCCINT (power), R19 VCCINT (power), R21 VCCBRAM (power), R23 VCCAUX (power), T12 VCCAUX (power), T14 VCCINT (power), T16 VCCINT (power), T18 VCCADC_0 (power), T20 VCCBRAM (power), T22 VCCAUX (power), U13 VCCAUX (power), U15 VCCINT (power), U19 VCCINT (power), U21 VCCBRAM (power), U23 VCCAUX (power), V12 VCCAUX (power), V14 VCCINT (power), V16 VCCINT (power), V20 VCCBRAM (power), V22 VCCAUX (power), W13 VCCAUX (power), W15 VCCINT (power), W19 VCCINT (power), W21 VCCBRAM (power), W23 VCCAUX (power), Y12 VCCAUX (power), Y14 VCCINT (power), Y16 VCCINT (power), Y18 VCCINT (power), Y20 VCCBRAM (power), Y22 VCCAUX (power)
part P pins: A1 GND (power), A11 GND (power), A12 GND (power), A14 GND (power), A16 GND (power), A18 GND (power), A20 GND (power), A22 GND (power), A24 GND (power), A26 GND (power), B8 GND (power), B12 GND (power), B24 GND (power), B33 GND (power), C5 GND (power), C12 GND (power), C13 GND (power), C15 GND (power), C17 GND (power), C19 GND (power), C21 GND (power), C23 GND (power), C24 GND (power), C30 GND (power), D2 GND (power), D12 GND (power), D23 GND (power), D27 GND (power), E9 GND (power), E12 GND (power), E14 GND (power), E16 GND (power), E18 GND (power), E20 GND (power), E22 GND (power), E23 GND (power), E24 GND (power), E34 GND (power), F6 GND (power), F12 GND (power), F23 GND (power), F31 GND (power), G3 GND (power), G12 GND (power), G13 GND (power), G15 GND (power), G17 GND (power), G19 GND (power), G21 GND (power), G23 GND (power), G28 GND (power), H10 GND (power), H13 GND (power), H22 GND (power), H23 GND (power), H25 GND (power), J7 GND (power), J13 GND (power), J14 GND (power), J15 GND (power), J16 GND (power), J17 GND (power), J18 GND (power), J19 GND (power), J20 GND (power), J21 GND (power), J22 GND (power), J32 GND (power), K4 GND (power), K15 GND (power), K17 GND (power), K19 GND (power), K29 GND (power), L1 GND (power), L11 GND (power), L14 GND (power), L16 GND (power), L18 GND (power), L20 GND (power), L26 GND (power), M8 GND (power), M13 GND (power), M15 GND (power), M17 GND (power), M19 GND (power), M21 GND (power), M23 GND (power), M33 GND (power), N5 GND (power), N12 GND (power), N14 GND (power), N16 GND (power), N18 GND (power), N20 GND (power), N22 GND (power), N30 GND (power), P2 GND (power), P13 GND (power), P15 GND (power), P17 GND (power), P19 GND (power), P21 GND (power), P23 GND (power), P27 GND (power), R9 GND (power), R12 GND (power), R14 GND (power), R16 GND (power), R18 GND (power), R20 GND (power), R22 GND (power), R24 GND (power), R34 GND (power), T6 GND (power), T13 GND (power), T15 GND (power), T19 GND (power), T21 GND (power), T23 GND (power), T31 GND (power), U3 GND (power), U12 GND (power), U14 GND (power), U16 GND (power), U20 GND (power), U22 GND (power), U28 GND (power), V10 GND (power)
part Q pins: AA1 GND (power), AA11 GND (power), AA12 GND (power), AA14 GND (power), AA16 GND (power), AA18 GND (power), AA20 GND (power), AA22 GND (power), AA26 GND (power), AB8 GND (power), AB13 GND (power), AB15 GND (power), AB17 GND (power), AB19 GND (power), AB21 GND (power), AB23 GND (power), AB33 GND (power), AC5 GND (power), AC12 GND (power), AC14 GND (power), AC16 GND (power), AC18 GND (power), AC20 GND (power), AC22 GND (power), AC30 GND (power), AD2 GND (power), AD15 GND (power), AD17 GND (power), AD19 GND (power), AD21 GND (power), AD27 GND (power), AE9 GND (power), AE16 GND (power), AE18 GND (power), AE20 GND (power), AE22 GND (power), AE24 GND (power), AE34 GND (power), AF6 GND (power), AF13 GND (power), AF14 GND (power), AF15 GND (power), AF16 GND (power), AF17 GND (power), AF18 GND (power), AF19 GND (power), AF20 GND (power), AF21 GND (power), AF22 GND (power), AF31 GND (power), AG3 GND (power), AG13 GND (power), AG22 GND (power), AG23 GND (power), AG28 GND (power), AH10 GND (power), AH12 GND (power), AH13 GND (power), AH15 GND (power), AH17 GND (power), AH19 GND (power), AH21 GND (power), AH23 GND (power), AH25 GND (power), AJ7 GND (power), AJ12 GND (power), AJ23 GND (power), AJ32 GND (power), AK4 GND (power), AK12 GND (power), AK14 GND (power), AK16 GND (power), AK18 GND (power), AK20 GND (power), AK22 GND (power), AK23 GND (power), AK24 GND (power), AK29 GND (power), AL1 GND (power), AL11 GND (power), AL12 GND (power), AL23 GND (power), AL26 GND (power), AM8 GND (power), AM12 GND (power), AM13 GND (power), AM15 GND (power), AM17 GND (power), AM19 GND (power), AM21 GND (power), AM23 GND (power), AM24 GND (power), AM33 GND (power), AN5 GND (power), AN12 GND (power), AN24 GND (power), AN30 GND (power), AP2 GND (power), AP12 GND (power), AP14 GND (power), AP16 GND (power), AP18 GND (power), AP20 GND (power), AP22 GND (power), AP24 GND (power), AP27 GND (power), T17 GNDADC_0 (power), V13 GND (power), V15 GND (power), V19 GND (power), V21 GND (power), V23 GND (power), V25 GND (power), W7 GND (power), W12 GND (power), W14 GND (power), W16 GND (power), W20 GND (power), W22 GND (power), W32 GND (power), Y4 GND (power), Y13 GND (power), Y15 GND (power), Y17 GND (power), Y19 GND (power), Y21 GND (power), Y23 GND (power), Y29 GND (power)
part R pins: A2 NC, A3 NC, A4 NC, A5 NC, A7 NC, A8 NC, A9 NC, A10 NC, A25 NC, A27 NC, A28 NC, A29 NC, A30 NC, A32 NC, A33 NC, A34 NC, B1 NC, B2 NC, B4 NC, B5 NC, B6 NC, B7 NC, B9 NC, B10 NC, B11 NC, B25 NC, B26 NC, B27 NC, B29 NC, B30 NC, B31 NC, B32 NC, B34 NC, C1 NC, C2 NC, C3 NC, C4 NC, C6 NC, C7 NC, C8 NC, C9 NC, C11 NC, C26 NC, C27 NC, C28 NC, C29 NC, C31 NC, C32 NC, C33 NC, C34 NC, D1 NC, D3 NC, D4 NC, D5 NC, D6 NC, D8 NC, D9 NC, D10 NC, D11 NC, D24 NC, D25 NC, D26 NC, D28 NC, D29 NC, D30 NC, D31 NC, D33 NC, D34 NC, E1 NC, E2 NC, E3 NC, E5 NC, E6 NC, E7 NC, E8 NC, E10 NC, E11 NC, E25 NC, E26 NC, E27 NC, E28 NC, E30 NC, E31 NC, E32 NC, E33 NC, F4 NC, F5 NC, F7 NC, F8 NC, F9 NC, F10 NC, F24 NC, F25 NC, F27 NC, F28 NC, F29 NC, F30 NC, F32 NC, F33 NC, F34 NC
part A text: BANK 12
part B text: BANK 13
part C text: BANK 14
part D text: BANK 15
part E text: BANK 16
part F text: BANK 32
part G text: BANK 33
part H text: BANK 34
part I text: BANK 35
part J text: BANK 36

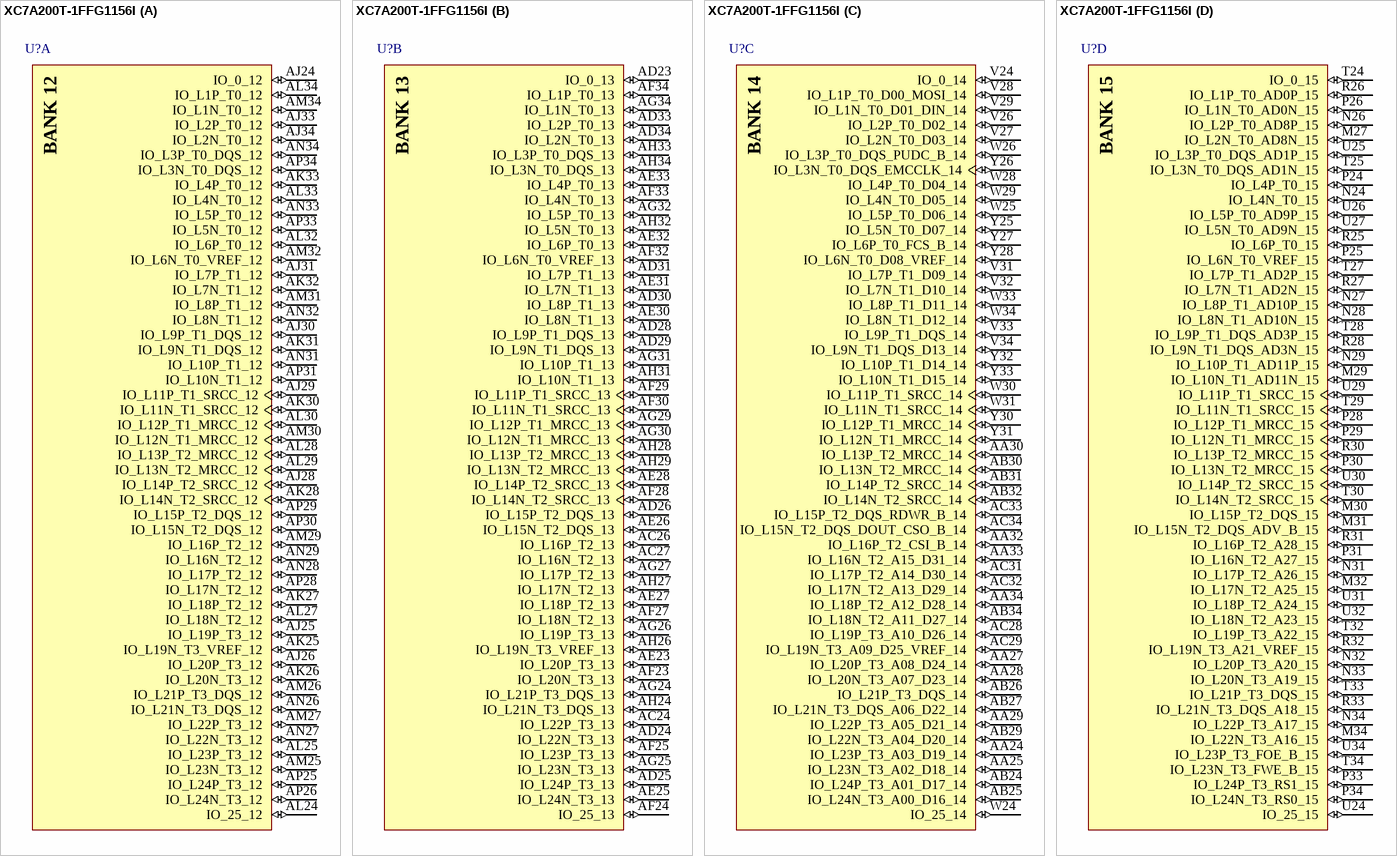
[diagram p79: symbol XC7A200T-1FFG1156I]

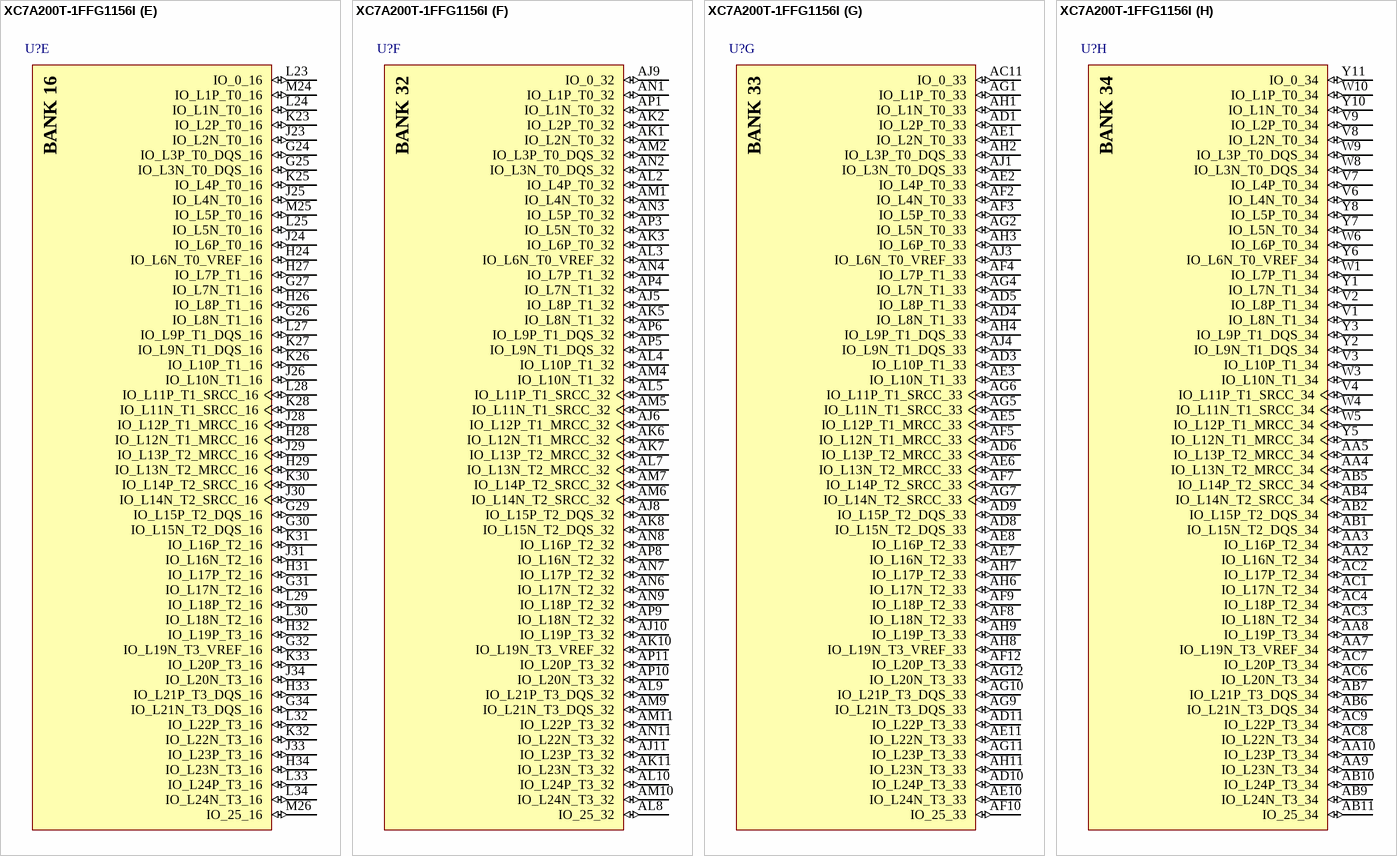
[diagram p80: symbol XC7A200T-1FFG1156I]

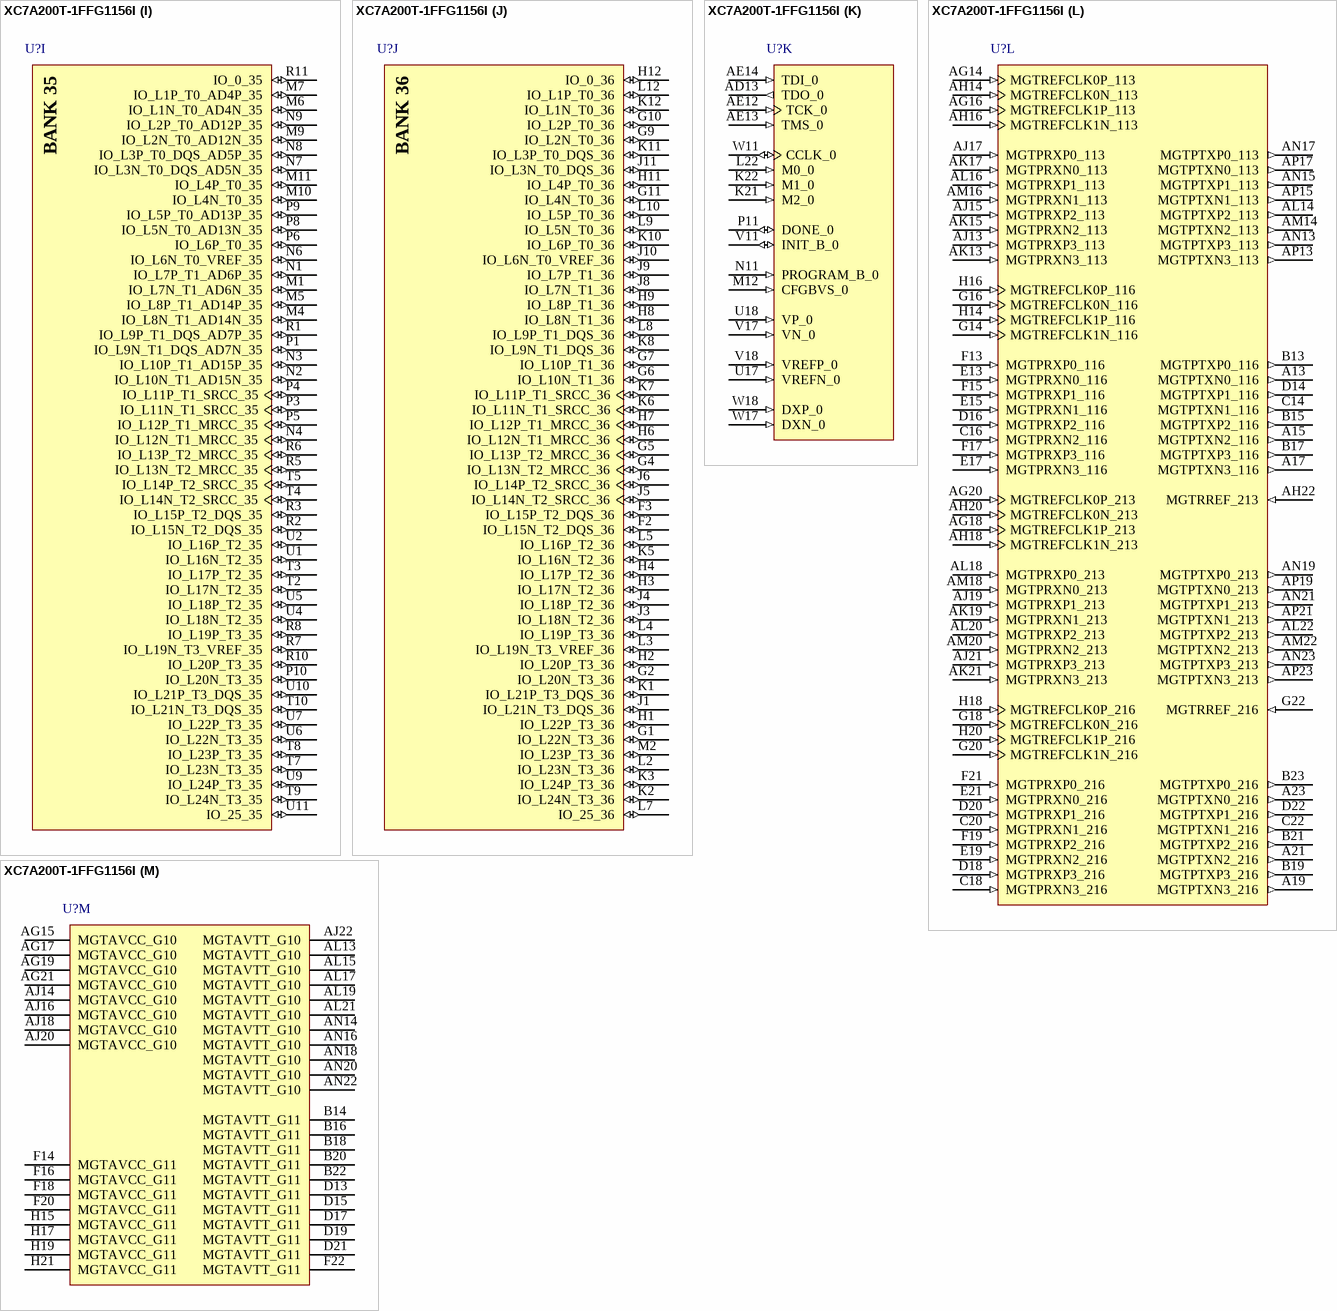
[diagram p81: symbol XC7A200T-1FFG1156I]

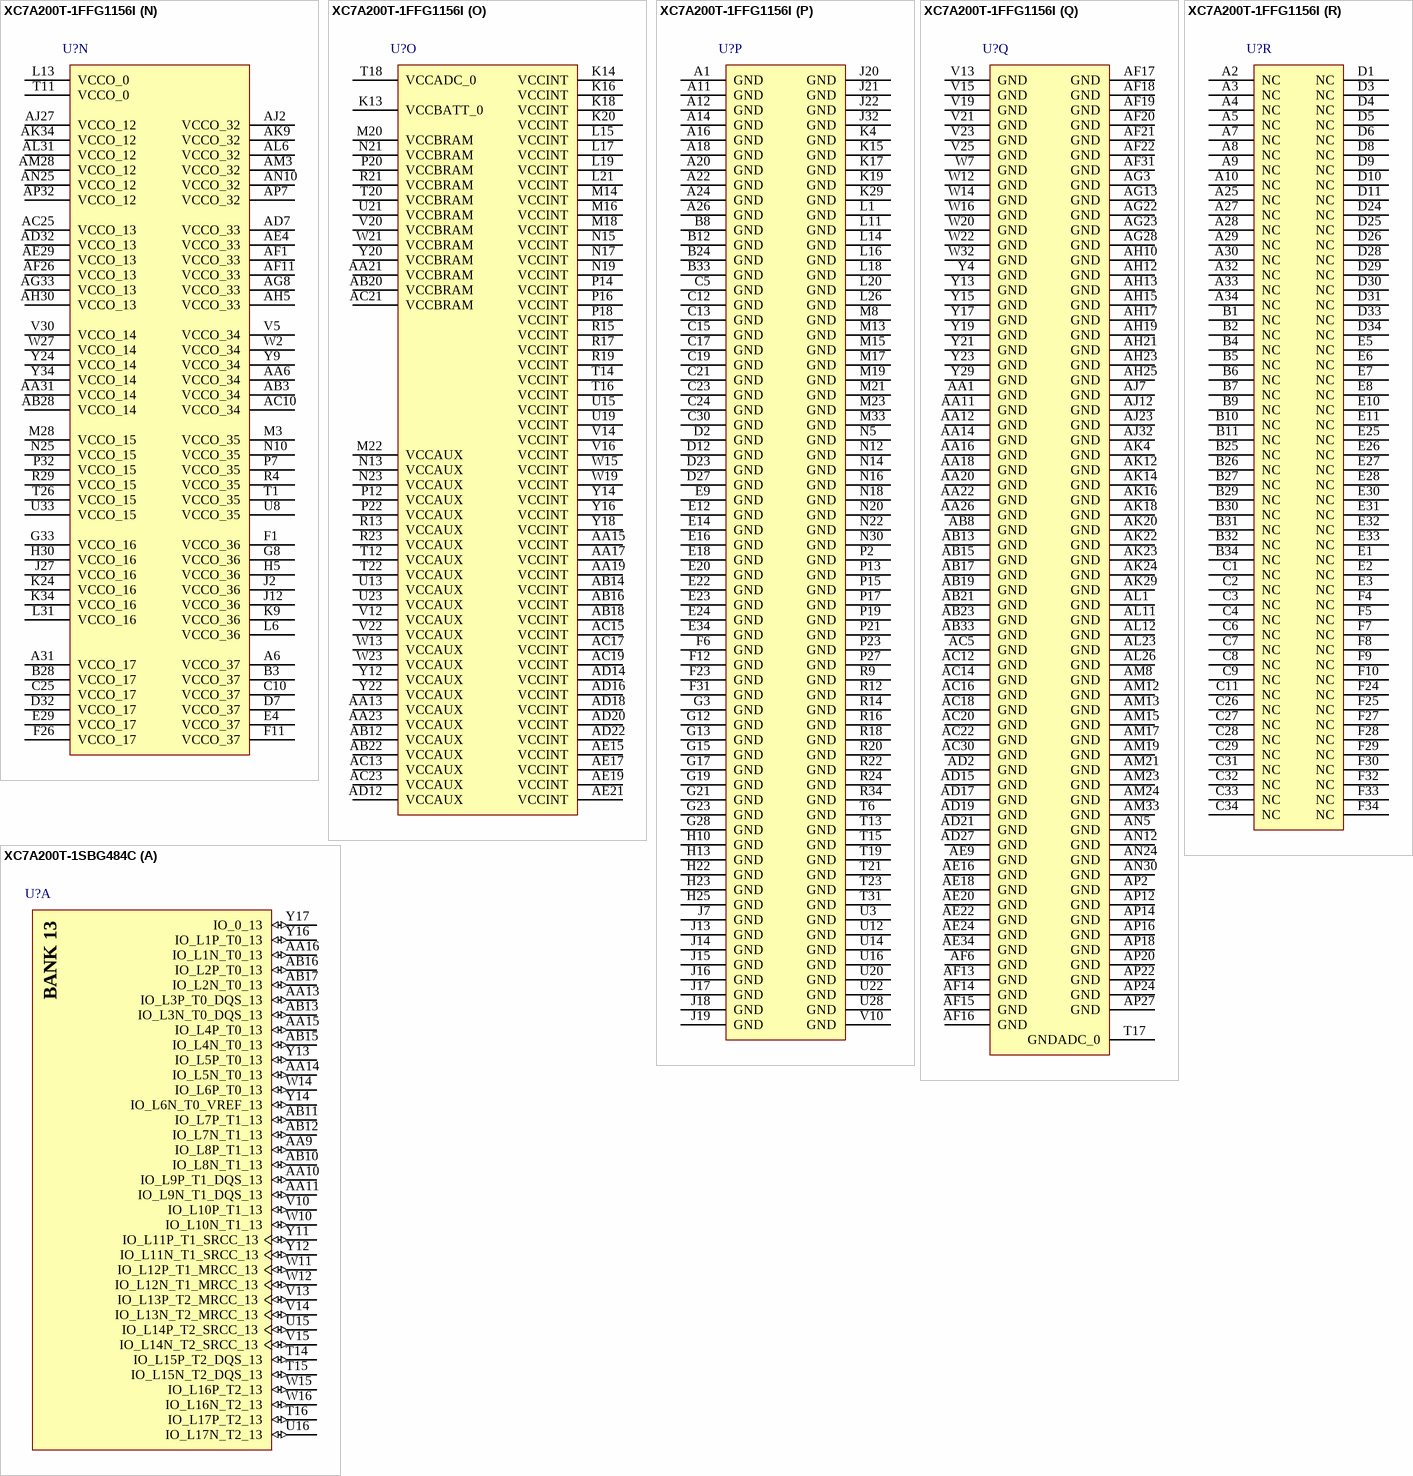
[diagram p82: symbols XC7A200T-1FFG1156I to XC7A200T-1SBG484C]